# Altium integrated library Xilinx Virtex-II Pro X.IntLib: 24 symbols (part 1 of 18)
Pins are listed as number, name and electrical type; pins without a type are passive.

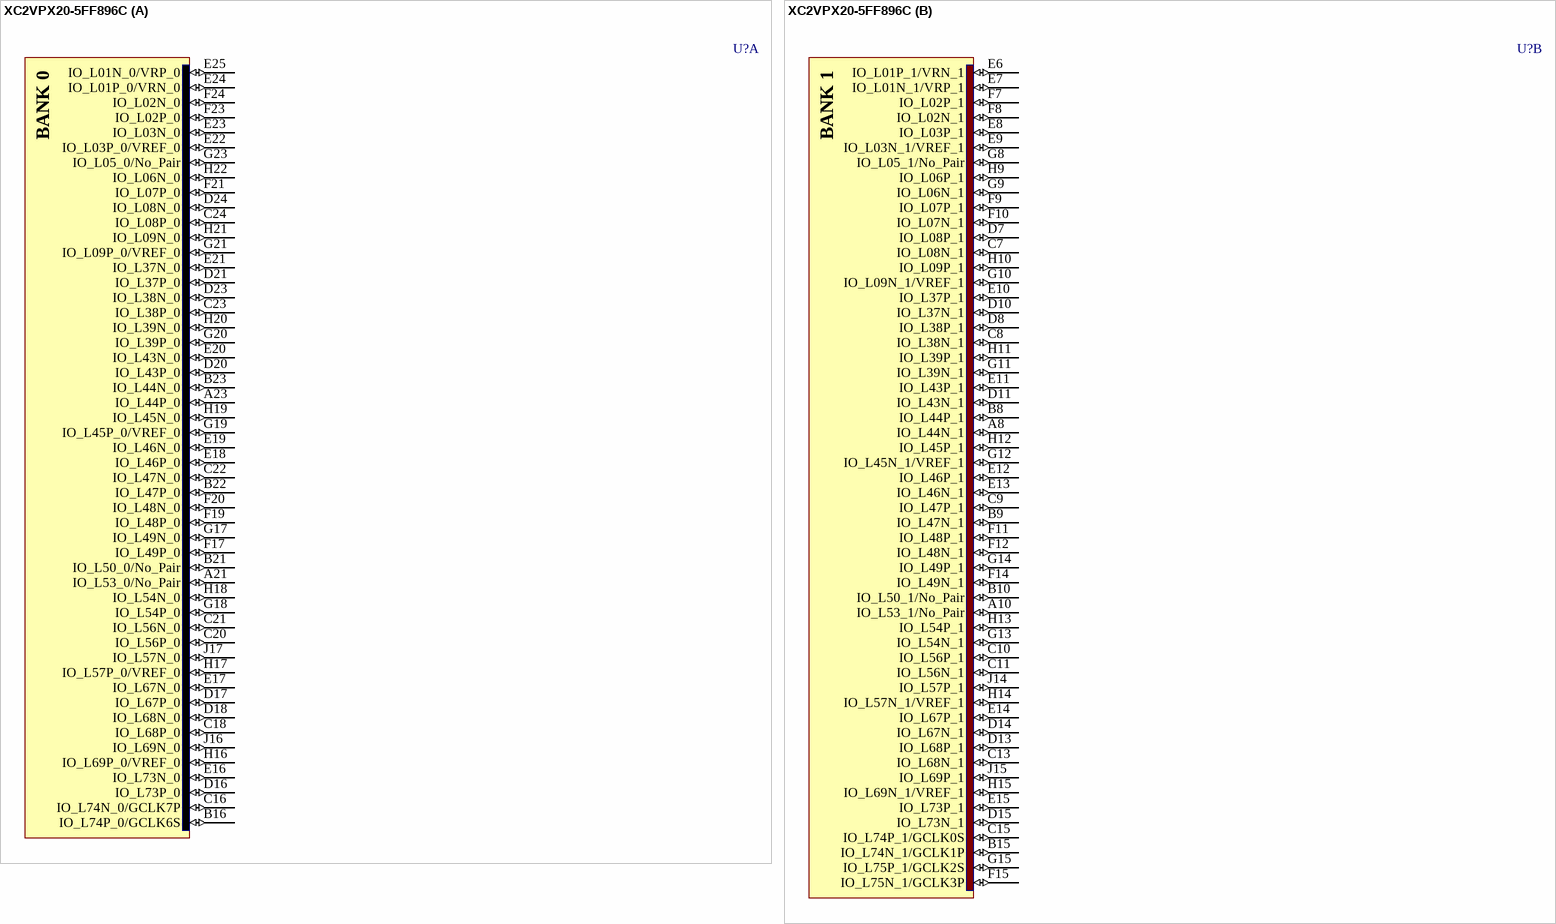
[diagram p0: symbol XC2VPX20-5FF896C]

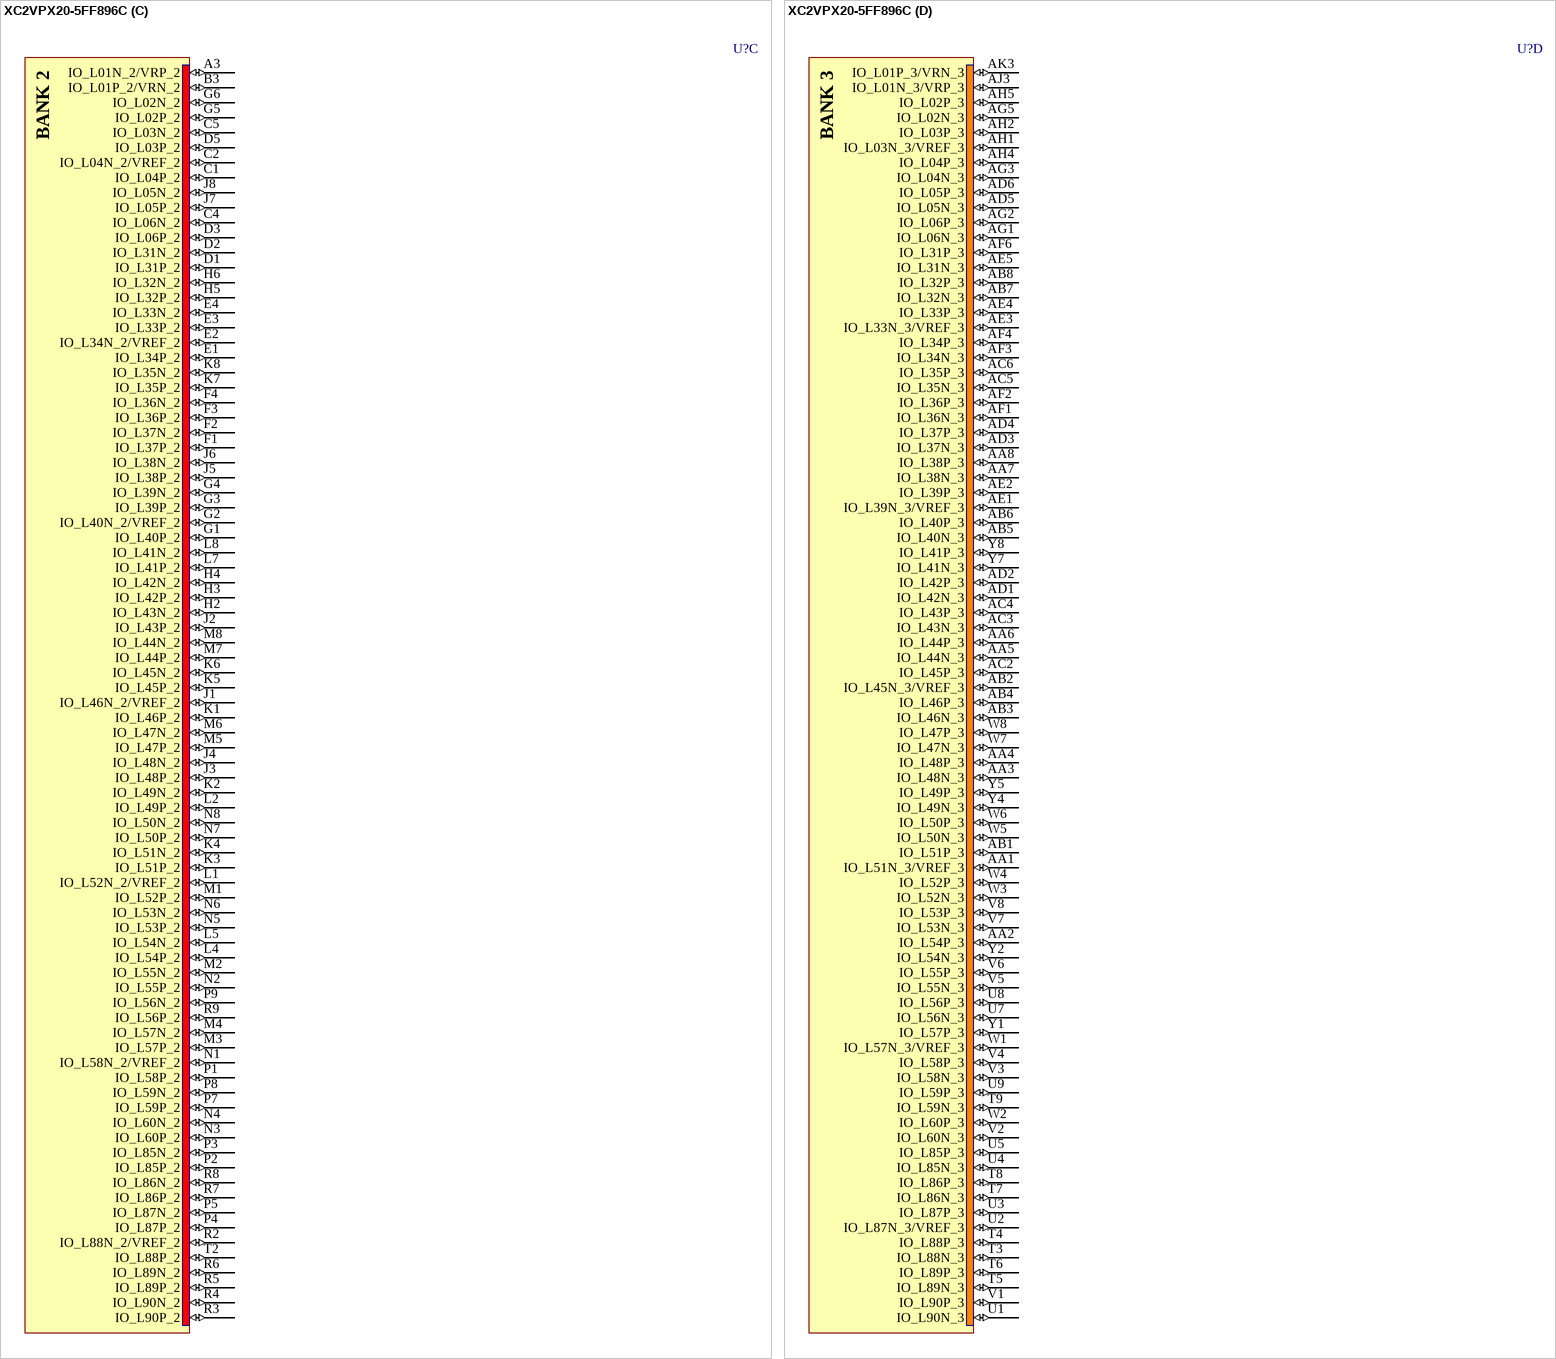
[diagram p1: symbol XC2VPX20-5FF896C]

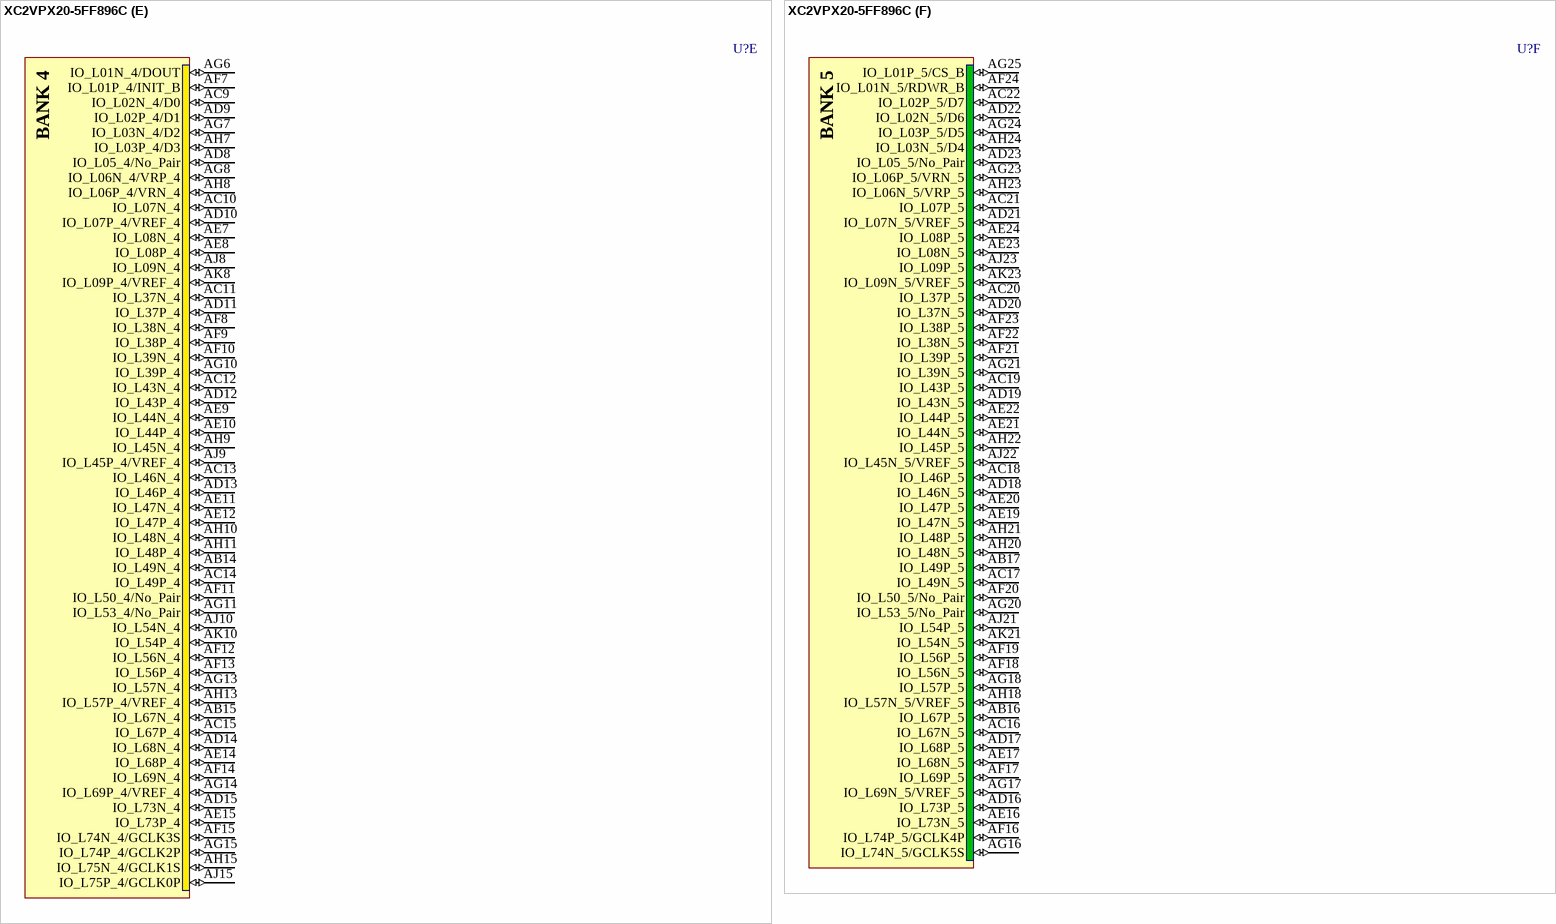
[diagram p2: symbol XC2VPX20-5FF896C]

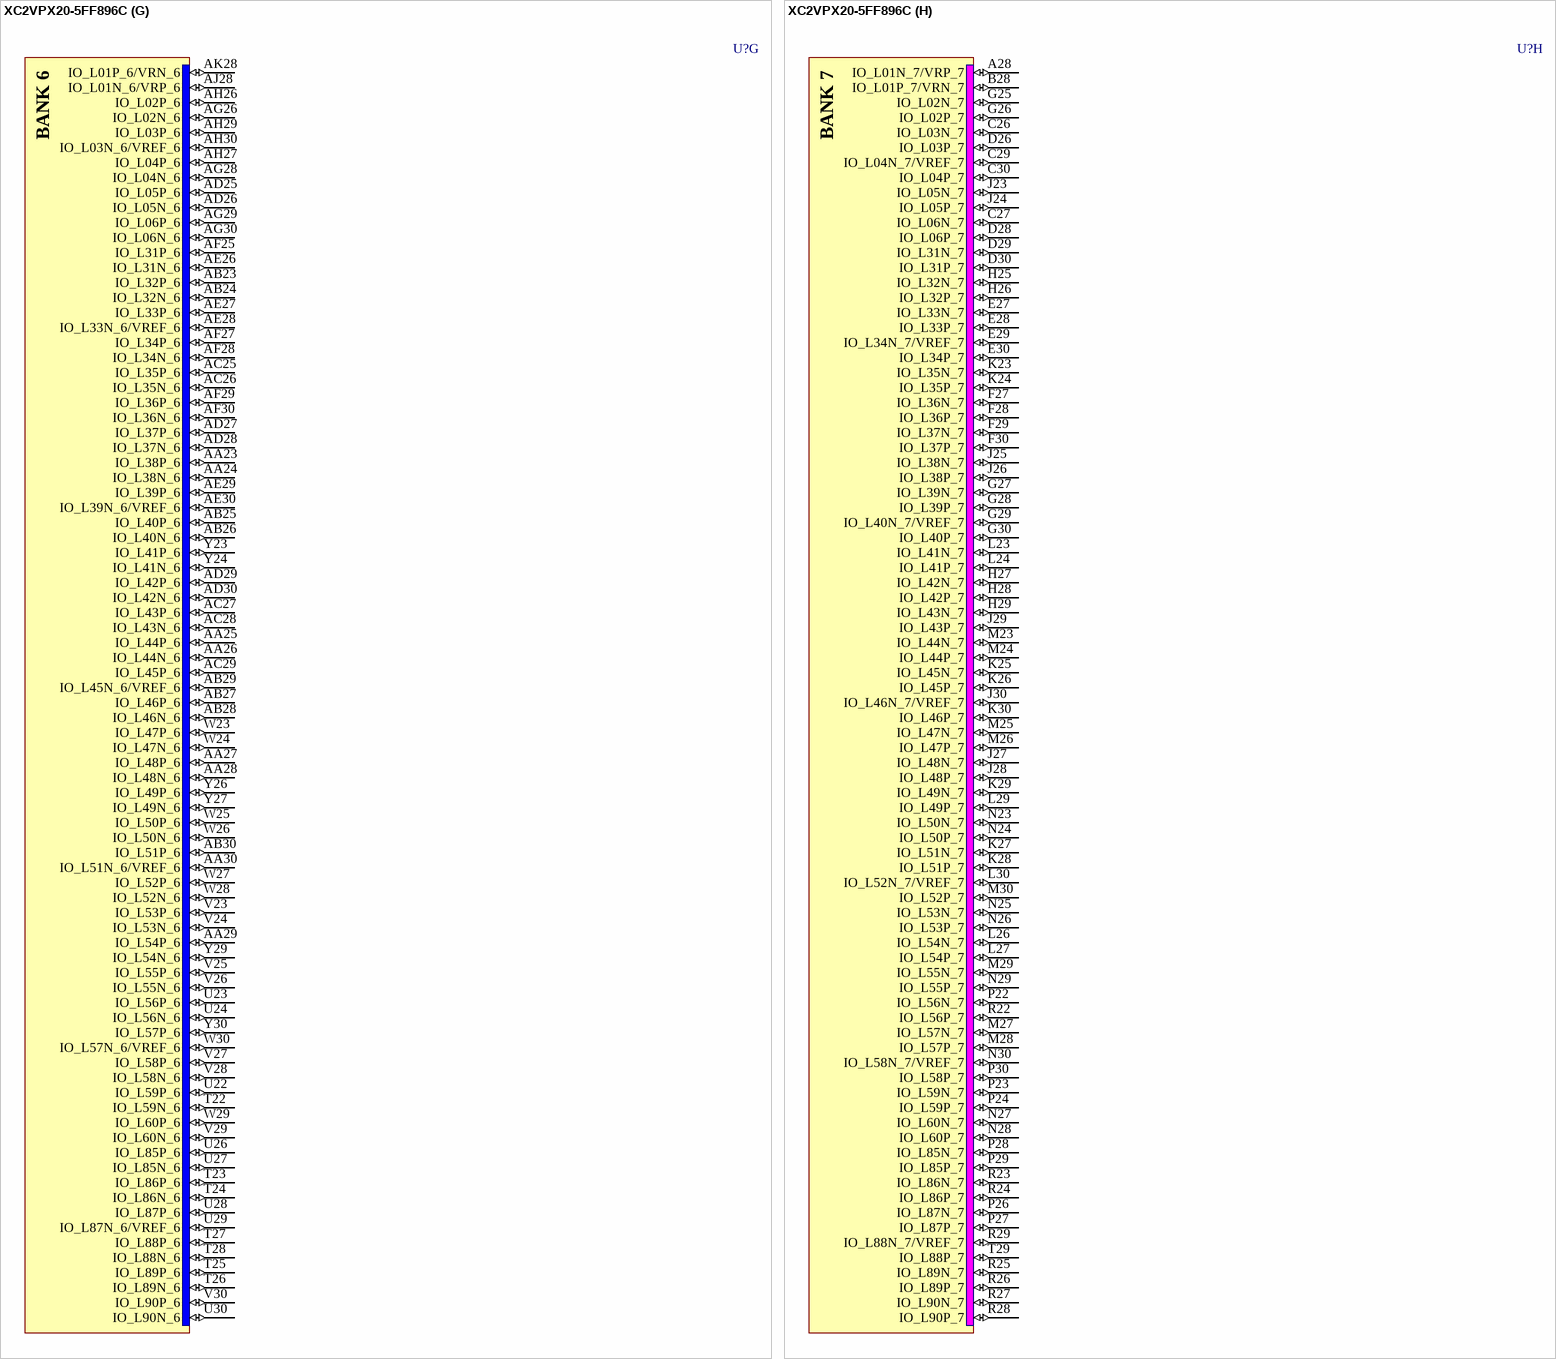
[diagram p3: symbol XC2VPX20-5FF896C]

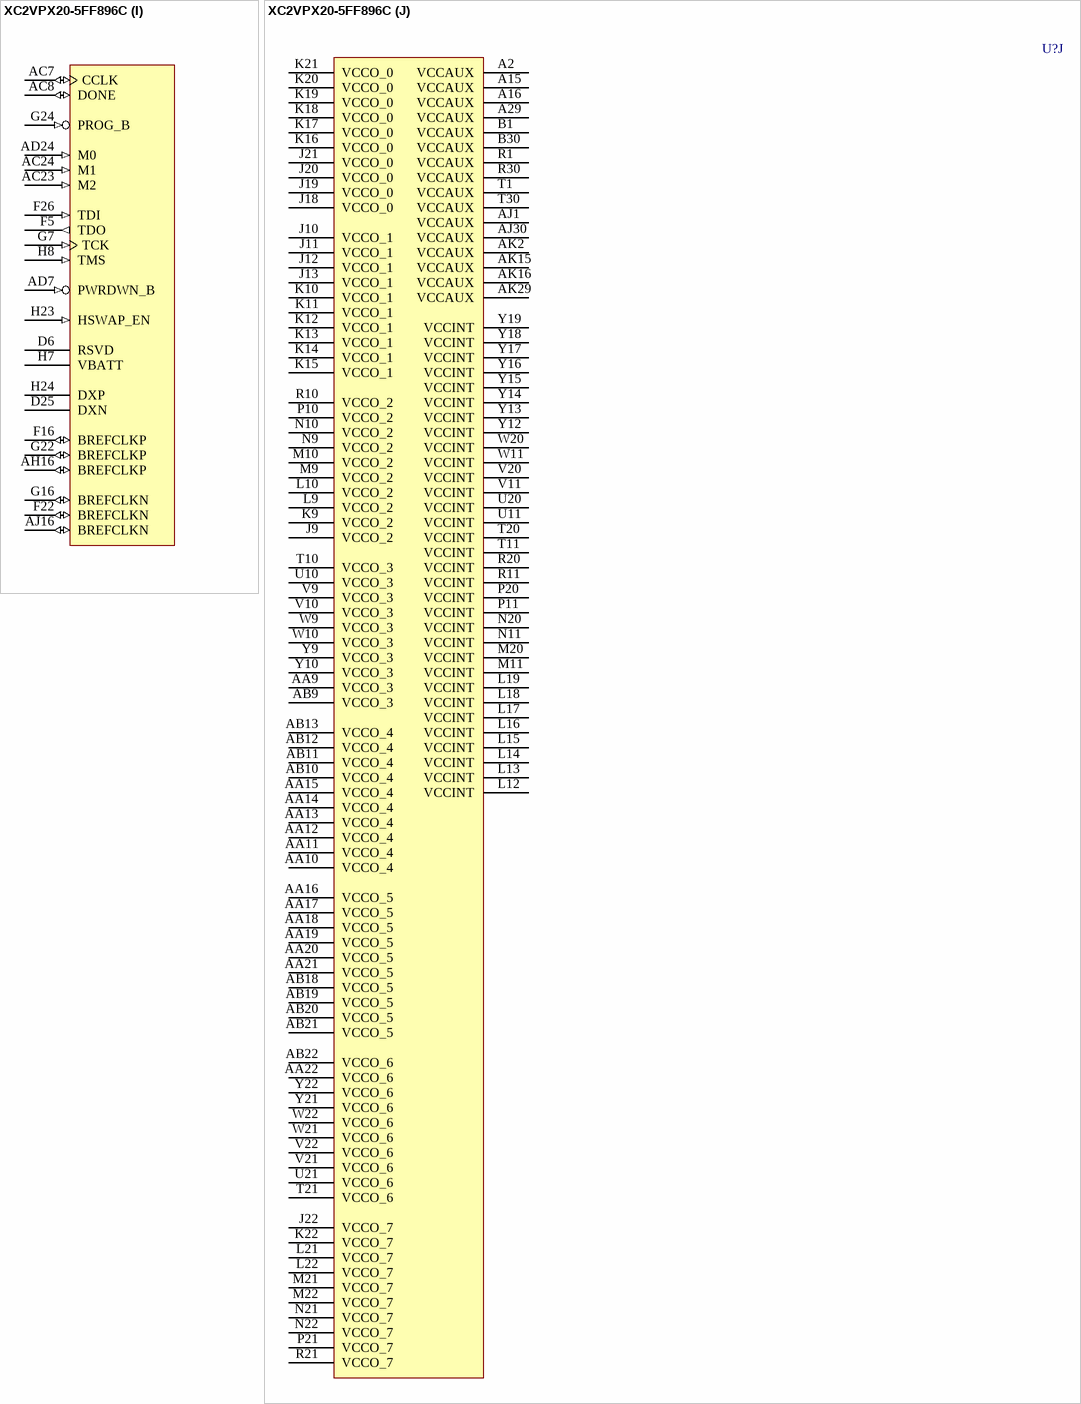
[diagram p4: symbol XC2VPX20-5FF896C]

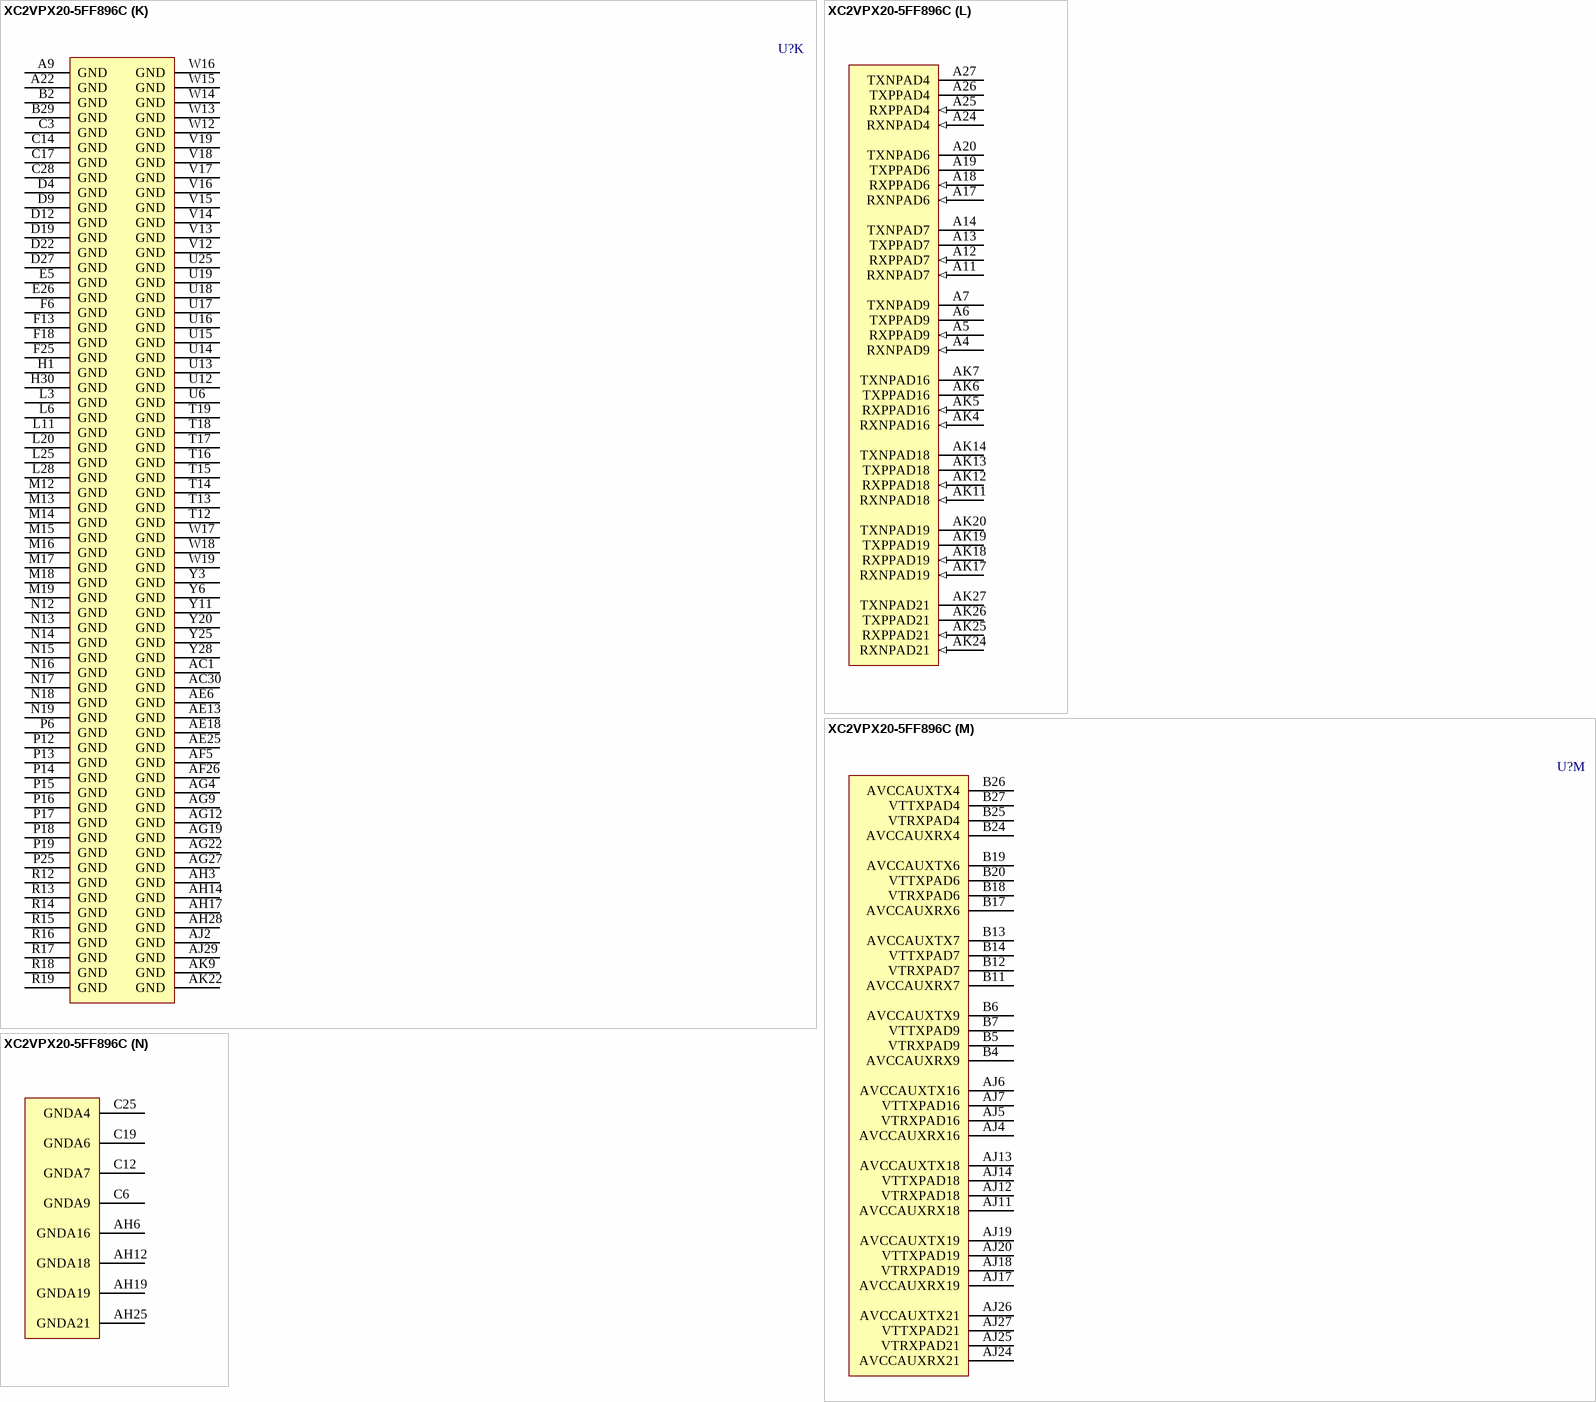
[diagram p5: symbol XC2VPX20-5FF896C]

## XC2VPX20-5FF896C
designator U?
Virtex-II Pro X Platform FPGA, 552 User I/Os, 896-Ball FFBGA, Speed Grade 5, Commercial Grade; User_I/Os: 552; DatasheetVersion: ver4.7, Nov-2007; PackageVersion: ver1.0, Apr-2001; PackageReference: FF896; PackageDescription: 896-Ball Flip Chip Fine Pitch Ball Grid Array (FF896); Code_JEDEC: MS-034-AAN-1 (Depopulated); ComponentLink1Description: Manufacturer URL; ComponentLink1URL: http://www.xilinx.com/; ComponentLink2Description: Virtex-II Pro Datasheet; ComponentLink2URL: http://www.xilinx.com/support/documentation/data_sheets/ds083.pdf; ComponentLink3Description: FF896 Package Drawing; ComponentLink3URL: http://www.xilinx.com/support/documentation/package_specs/ff896.pdf; ComponentLink4Description: Virtex-II Pro Documents; ComponentLink4URL: http://www.xilinx.com/support/documentation/virtex-ii_pro.htm
footprint FF896 (BGA, 896-Leads, Body 31x31mm, Pitch 1mm)
part A pins: A21 IO_L53_0/No_Pair (io), A23 IO_L44P_0 (io), B16 IO_L74P_0/GCLK6S (io), B21 IO_L50_0/No_Pair (io), B22 IO_L47P_0 (io), B23 IO_L44N_0 (io), C16 IO_L74N_0/GCLK7P (io), C18 IO_L68P_0 (io), C20 IO_L56P_0 (io), C21 IO_L56N_0 (io), C22 IO_L47N_0 (io), C23 IO_L38P_0 (io), C24 IO_L08P_0 (io), D16 IO_L73P_0 (io), D17 IO_L67P_0 (io), D18 IO_L68N_0 (io), D20 IO_L43P_0 (io), D21 IO_L37P_0 (io), D23 IO_L38N_0 (io), D24 IO_L08N_0 (io), E16 IO_L73N_0 (io), E17 IO_L67N_0 (io), E18 IO_L46P_0 (io), E19 IO_L46N_0 (io), E20 IO_L43N_0 (io), E21 IO_L37N_0 (io), E22 IO_L03P_0/VREF_0 (io), E23 IO_L03N_0 (io), E24 IO_L01P_0/VRN_0 (io), E25 IO_L01N_0/VRP_0 (io), F17 IO_L49P_0 (io), F19 IO_L48P_0 (io), F20 IO_L48N_0 (io), F21 IO_L07P_0 (io), F23 IO_L02P_0 (io), F24 IO_L02N_0 (io), G17 IO_L49N_0 (io), G18 IO_L54P_0 (io), G19 IO_L45P_0/VREF_0 (io), G20 IO_L39P_0 (io), G21 IO_L09P_0/VREF_0 (io), G23 IO_L05_0/No_Pair (io), H16 IO_L69P_0/VREF_0 (io), H17 IO_L57P_0/VREF_0 (io), H18 IO_L54N_0 (io), H19 IO_L45N_0 (io), H20 IO_L39N_0 (io), H21 IO_L09N_0 (io), H22 IO_L06N_0 (io), J16 IO_L69N_0 (io), J17 IO_L57N_0 (io)
part B pins: A8 IO_L44N_1 (io), A10 IO_L53_1/No_Pair (io), B8 IO_L44P_1 (io), B9 IO_L47N_1 (io), B10 IO_L50_1/No_Pair (io), B15 IO_L74N_1/GCLK1P (io), C7 IO_L08N_1 (io), C8 IO_L38N_1 (io), C9 IO_L47P_1 (io), C10 IO_L56P_1 (io), C11 IO_L56N_1 (io), C13 IO_L68N_1 (io), C15 IO_L74P_1/GCLK0S (io), D7 IO_L08P_1 (io), D8 IO_L38P_1 (io), D10 IO_L37N_1 (io), D11 IO_L43N_1 (io), D13 IO_L68P_1 (io), D14 IO_L67N_1 (io), D15 IO_L73N_1 (io), E6 IO_L01P_1/VRN_1 (io), E7 IO_L01N_1/VRP_1 (io), E8 IO_L03P_1 (io), E9 IO_L03N_1/VREF_1 (io), E10 IO_L37P_1 (io), E11 IO_L43P_1 (io), E12 IO_L46P_1 (io), E13 IO_L46N_1 (io), E14 IO_L67P_1 (io), E15 IO_L73P_1 (io), F7 IO_L02P_1 (io), F8 IO_L02N_1 (io), F9 IO_L07P_1 (io), F10 IO_L07N_1 (io), F11 IO_L48P_1 (io), F12 IO_L48N_1 (io), F14 IO_L49N_1 (io), F15 IO_L75N_1/GCLK3P (io), G8 IO_L05_1/No_Pair (io), G9 IO_L06N_1 (io), G10 IO_L09N_1/VREF_1 (io), G11 IO_L39N_1 (io), G12 IO_L45N_1/VREF_1 (io), G13 IO_L54N_1 (io), G14 IO_L49P_1 (io), G15 IO_L75P_1/GCLK2S (io), H9 IO_L06P_1 (io), H10 IO_L09P_1 (io), H11 IO_L39P_1 (io), H12 IO_L45P_1 (io), H13 IO_L54P_1 (io), H14 IO_L57N_1/VREF_1 (io), H15 IO_L69N_1/VREF_1 (io), J14 IO_L57P_1 (io), J15 IO_L69P_1 (io)
part C pins: A3 IO_L01N_2/VRP_2 (io), B3 IO_L01P_2/VRN_2 (io), C1 IO_L04P_2 (io), C2 IO_L04N_2/VREF_2 (io), C4 IO_L06N_2 (io), C5 IO_L03N_2 (io), D1 IO_L31P_2 (io), D2 IO_L31N_2 (io), D3 IO_L06P_2 (io), D5 IO_L03P_2 (io), E1 IO_L34P_2 (io), E2 IO_L34N_2/VREF_2 (io), E3 IO_L33P_2 (io), E4 IO_L33N_2 (io), F1 IO_L37P_2 (io), F2 IO_L37N_2 (io), F3 IO_L36P_2 (io), F4 IO_L36N_2 (io), G1 IO_L40P_2 (io), G2 IO_L40N_2/VREF_2 (io), G3 IO_L39P_2 (io), G4 IO_L39N_2 (io), G5 IO_L02P_2 (io), G6 IO_L02N_2 (io), H2 IO_L43N_2 (io), H3 IO_L42P_2 (io), H4 IO_L42N_2 (io), H5 IO_L32P_2 (io), H6 IO_L32N_2 (io), J1 IO_L46N_2/VREF_2 (io), J2 IO_L43P_2 (io), J3 IO_L48P_2 (io), J4 IO_L48N_2 (io), J5 IO_L38P_2 (io), J6 IO_L38N_2 (io), J7 IO_L05P_2 (io), J8 IO_L05N_2 (io), K1 IO_L46P_2 (io), K2 IO_L49N_2 (io), K3 IO_L51P_2 (io), K4 IO_L51N_2 (io), K5 IO_L45P_2 (io), K6 IO_L45N_2 (io), K7 IO_L35P_2 (io), K8 IO_L35N_2 (io), L1 IO_L52N_2/VREF_2 (io), L2 IO_L49P_2 (io), L4 IO_L54P_2 (io), L5 IO_L54N_2 (io), L7 IO_L41P_2 (io), L8 IO_L41N_2 (io), M1 IO_L52P_2 (io), M2 IO_L55N_2 (io), M3 IO_L57P_2 (io), M4 IO_L57N_2 (io), M5 IO_L47P_2 (io), M6 IO_L47N_2 (io), M7 IO_L44P_2 (io), M8 IO_L44N_2 (io), N1 IO_L58N_2/VREF_2 (io), N2 IO_L55P_2 (io), N3 IO_L60P_2 (io), N4 IO_L60N_2 (io), N5 IO_L53P_2 (io), N6 IO_L53N_2 (io), N7 IO_L50P_2 (io), N8 IO_L50N_2 (io), P1 IO_L58P_2 (io), P2 IO_L85P_2 (io), P3 IO_L85N_2 (io), P4 IO_L87P_2 (io), P5 IO_L87N_2 (io), P7 IO_L59P_2 (io), P8 IO_L59N_2 (io), P9 IO_L56N_2 (io), R2 IO_L88N_2/VREF_2 (io), R3 IO_L90P_2 (io), R4 IO_L90N_2 (io), R5 IO_L89P_2 (io), R6 IO_L89N_2 (io), R7 IO_L86P_2 (io), R8 IO_L86N_2 (io), R9 IO_L56P_2 (io), T2 IO_L88P_2 (io)
part D pins: AA1 IO_L51N_3/VREF_3 (io), AA2 IO_L54P_3 (io), AA3 IO_L48N_3 (io), AA4 IO_L48P_3 (io), AA5 IO_L44N_3 (io), AA6 IO_L44P_3 (io), AA7 IO_L38N_3 (io), AA8 IO_L38P_3 (io), AB1 IO_L51P_3 (io), AB2 IO_L45N_3/VREF_3 (io), AB3 IO_L46N_3 (io), AB4 IO_L46P_3 (io), AB5 IO_L40N_3 (io), AB6 IO_L40P_3 (io), AB7 IO_L32N_3 (io), AB8 IO_L32P_3 (io), AC2 IO_L45P_3 (io), AC3 IO_L43N_3 (io), AC4 IO_L43P_3 (io), AC5 IO_L35N_3 (io), AC6 IO_L35P_3 (io), AD1 IO_L42N_3 (io), AD2 IO_L42P_3 (io), AD3 IO_L37N_3 (io), AD4 IO_L37P_3 (io), AD5 IO_L05N_3 (io), AD6 IO_L05P_3 (io), AE1 IO_L39N_3/VREF_3 (io), AE2 IO_L39P_3 (io), AE3 IO_L33N_3/VREF_3 (io), AE4 IO_L33P_3 (io), AE5 IO_L31N_3 (io), AF1 IO_L36N_3 (io), AF2 IO_L36P_3 (io), AF3 IO_L34N_3 (io), AF4 IO_L34P_3 (io), AF6 IO_L31P_3 (io), AG1 IO_L06N_3 (io), AG2 IO_L06P_3 (io), AG3 IO_L04N_3 (io), AG5 IO_L02N_3 (io), AH1 IO_L03N_3/VREF_3 (io), AH2 IO_L03P_3 (io), AH4 IO_L04P_3 (io), AH5 IO_L02P_3 (io), AJ3 IO_L01N_3/VRP_3 (io), AK3 IO_L01P_3/VRN_3 (io), T3 IO_L88N_3 (io), T4 IO_L88P_3 (io), T5 IO_L89N_3 (io), T6 IO_L89P_3 (io), T7 IO_L86N_3 (io), T8 IO_L86P_3 (io), T9 IO_L59N_3 (io), U1 IO_L90N_3 (io), U2 IO_L87N_3/VREF_3 (io), U3 IO_L87P_3 (io), U4 IO_L85N_3 (io), U5 IO_L85P_3 (io), U7 IO_L56N_3 (io), U8 IO_L56P_3 (io), U9 IO_L59P_3 (io), V1 IO_L90P_3 (io), V2 IO_L60N_3 (io), V3 IO_L58N_3 (io), V4 IO_L58P_3 (io), V5 IO_L55N_3 (io), V6 IO_L55P_3 (io), V7 IO_L53N_3 (io), V8 IO_L53P_3 (io), W1 IO_L57N_3/VREF_3 (io), W2 IO_L60P_3 (io), W3 IO_L52N_3 (io), W4 IO_L52P_3 (io), W5 IO_L50N_3 (io), W6 IO_L50P_3 (io), W7 IO_L47N_3 (io), W8 IO_L47P_3 (io), Y1 IO_L57P_3 (io), Y2 IO_L54N_3 (io), Y4 IO_L49N_3 (io), Y5 IO_L49P_3 (io), Y7 IO_L41N_3 (io), Y8 IO_L41P_3 (io)
part E pins: AB14 IO_L49N_4 (io), AB15 IO_L67N_4 (io), AC9 IO_L02N_4/D0 (io), AC10 IO_L07N_4 (io), AC11 IO_L37N_4 (io), AC12 IO_L43N_4 (io), AC13 IO_L46N_4 (io), AC14 IO_L49P_4 (io), AC15 IO_L67P_4 (io), AD8 IO_L05_4/No_Pair (io), AD9 IO_L02P_4/D1 (io), AD10 IO_L07P_4/VREF_4 (io), AD11 IO_L37P_4 (io), AD12 IO_L43P_4 (io), AD13 IO_L46P_4 (io), AD14 IO_L68N_4 (io), AD15 IO_L73N_4 (io), AE7 IO_L08N_4 (io), AE8 IO_L08P_4 (io), AE9 IO_L44N_4 (io), AE10 IO_L44P_4 (io), AE11 IO_L47N_4 (io), AE12 IO_L47P_4 (io), AE14 IO_L68P_4 (io), AE15 IO_L73P_4 (io), AF7 IO_L01P_4/INIT_B (io), AF8 IO_L38N_4 (io), AF9 IO_L38P_4 (io), AF10 IO_L39N_4 (io), AF11 IO_L50_4/No_Pair (io), AF12 IO_L56N_4 (io), AF13 IO_L56P_4 (io), AF14 IO_L69N_4 (io), AF15 IO_L74N_4/GCLK3S (io), AG6 IO_L01N_4/DOUT (io), AG7 IO_L03N_4/D2 (io), AG8 IO_L06N_4/VRP_4 (io), AG10 IO_L39P_4 (io), AG11 IO_L53_4/No_Pair (io), AG13 IO_L57N_4 (io), AG14 IO_L69P_4/VREF_4 (io), AG15 IO_L74P_4/GCLK2P (io), AH7 IO_L03P_4/D3 (io), AH8 IO_L06P_4/VRN_4 (io), AH9 IO_L45N_4 (io), AH10 IO_L48N_4 (io), AH11 IO_L48P_4 (io), AH13 IO_L57P_4/VREF_4 (io), AH15 IO_L75N_4/GCLK1S (io), AJ8 IO_L09N_4 (io), AJ9 IO_L45P_4/VREF_4 (io), AJ10 IO_L54N_4 (io), AJ15 IO_L75P_4/GCLK0P (io), AK8 IO_L09P_4/VREF_4 (io), AK10 IO_L54P_4 (io)
part F pins: AB16 IO_L67P_5 (io), AB17 IO_L49P_5 (io), AC16 IO_L67N_5 (io), AC17 IO_L49N_5 (io), AC18 IO_L46P_5 (io), AC19 IO_L43P_5 (io), AC20 IO_L37P_5 (io), AC21 IO_L07P_5 (io), AC22 IO_L02P_5/D7 (io), AD16 IO_L73P_5 (io), AD17 IO_L68P_5 (io), AD18 IO_L46N_5 (io), AD19 IO_L43N_5 (io), AD20 IO_L37N_5 (io), AD21 IO_L07N_5/VREF_5 (io), AD22 IO_L02N_5/D6 (io), AD23 IO_L05_5/No_Pair (io), AE16 IO_L73N_5 (io), AE17 IO_L68N_5 (io), AE19 IO_L47N_5 (io), AE20 IO_L47P_5 (io), AE21 IO_L44N_5 (io), AE22 IO_L44P_5 (io), AE23 IO_L08N_5 (io), AE24 IO_L08P_5 (io), AF16 IO_L74P_5/GCLK4P (io), AF17 IO_L69P_5 (io), AF18 IO_L56N_5 (io), AF19 IO_L56P_5 (io), AF20 IO_L50_5/No_Pair (io), AF21 IO_L39P_5 (io), AF22 IO_L38N_5 (io), AF23 IO_L38P_5 (io), AF24 IO_L01N_5/RDWR_B (io), AG16 IO_L74N_5/GCLK5S (io), AG17 IO_L69N_5/VREF_5 (io), AG18 IO_L57P_5 (io), AG20 IO_L53_5/No_Pair (io), AG21 IO_L39N_5 (io), AG23 IO_L06P_5/VRN_5 (io), AG24 IO_L03P_5/D5 (io), AG25 IO_L01P_5/CS_B (io), AH18 IO_L57N_5/VREF_5 (io), AH20 IO_L48N_5 (io), AH21 IO_L48P_5 (io), AH22 IO_L45P_5 (io), AH23 IO_L06N_5/VRP_5 (io), AH24 IO_L03N_5/D4 (io), AJ21 IO_L54P_5 (io), AJ22 IO_L45N_5/VREF_5 (io), AJ23 IO_L09P_5 (io), AK21 IO_L54N_5 (io), AK23 IO_L09N_5/VREF_5 (io)
part G pins: AA23 IO_L38P_6 (io), AA24 IO_L38N_6 (io), AA25 IO_L44P_6 (io), AA26 IO_L44N_6 (io), AA27 IO_L48P_6 (io), AA28 IO_L48N_6 (io), AA29 IO_L54P_6 (io), AA30 IO_L51N_6/VREF_6 (io), AB23 IO_L32P_6 (io), AB24 IO_L32N_6 (io), AB25 IO_L40P_6 (io), AB26 IO_L40N_6 (io), AB27 IO_L46P_6 (io), AB28 IO_L46N_6 (io), AB29 IO_L45N_6/VREF_6 (io), AB30 IO_L51P_6 (io), AC25 IO_L35P_6 (io), AC26 IO_L35N_6 (io), AC27 IO_L43P_6 (io), AC28 IO_L43N_6 (io), AC29 IO_L45P_6 (io), AD25 IO_L05P_6 (io), AD26 IO_L05N_6 (io), AD27 IO_L37P_6 (io), AD28 IO_L37N_6 (io), AD29 IO_L42P_6 (io), AD30 IO_L42N_6 (io), AE26 IO_L31N_6 (io), AE27 IO_L33P_6 (io), AE28 IO_L33N_6/VREF_6 (io), AE29 IO_L39P_6 (io), AE30 IO_L39N_6/VREF_6 (io), AF25 IO_L31P_6 (io), AF27 IO_L34P_6 (io), AF28 IO_L34N_6 (io), AF29 IO_L36P_6 (io), AF30 IO_L36N_6 (io), AG26 IO_L02N_6 (io), AG28 IO_L04N_6 (io), AG29 IO_L06P_6 (io), AG30 IO_L06N_6 (io), AH26 IO_L02P_6 (io), AH27 IO_L04P_6 (io), AH29 IO_L03P_6 (io), AH30 IO_L03N_6/VREF_6 (io), AJ28 IO_L01N_6/VRP_6 (io), AK28 IO_L01P_6/VRN_6 (io), T22 IO_L59N_6 (io), T23 IO_L86P_6 (io), T24 IO_L86N_6 (io), T25 IO_L89P_6 (io), T26 IO_L89N_6 (io), T27 IO_L88P_6 (io), T28 IO_L88N_6 (io), U22 IO_L59P_6 (io), U23 IO_L56P_6 (io), U24 IO_L56N_6 (io), U26 IO_L85P_6 (io), U27 IO_L85N_6 (io), U28 IO_L87P_6 (io), U29 IO_L87N_6/VREF_6 (io), U30 IO_L90N_6 (io), V23 IO_L53P_6 (io), V24 IO_L53N_6 (io), V25 IO_L55P_6 (io), V26 IO_L55N_6 (io), V27 IO_L58P_6 (io), V28 IO_L58N_6 (io), V29 IO_L60N_6 (io), V30 IO_L90P_6 (io), W23 IO_L47P_6 (io), W24 IO_L47N_6 (io), W25 IO_L50P_6 (io), W26 IO_L50N_6 (io), W27 IO_L52P_6 (io), W28 IO_L52N_6 (io), W29 IO_L60P_6 (io), W30 IO_L57N_6/VREF_6 (io), Y23 IO_L41P_6 (io), Y24 IO_L41N_6 (io), Y26 IO_L49P_6 (io), Y27 IO_L49N_6 (io), Y29 IO_L54N_6 (io), Y30 IO_L57P_6 (io)
part H pins: A28 IO_L01N_7/VRP_7 (io), B28 IO_L01P_7/VRN_7 (io), C26 IO_L03N_7 (io), C27 IO_L06N_7 (io), C29 IO_L04N_7/VREF_7 (io), C30 IO_L04P_7 (io), D26 IO_L03P_7 (io), D28 IO_L06P_7 (io), D29 IO_L31N_7 (io), D30 IO_L31P_7 (io), E27 IO_L33N_7 (io), E28 IO_L33P_7 (io), E29 IO_L34N_7/VREF_7 (io), E30 IO_L34P_7 (io), F27 IO_L36N_7 (io), F28 IO_L36P_7 (io), F29 IO_L37N_7 (io), F30 IO_L37P_7 (io), G25 IO_L02N_7 (io), G26 IO_L02P_7 (io), G27 IO_L39N_7 (io), G28 IO_L39P_7 (io), G29 IO_L40N_7/VREF_7 (io), G30 IO_L40P_7 (io), H25 IO_L32N_7 (io), H26 IO_L32P_7 (io), H27 IO_L42N_7 (io), H28 IO_L42P_7 (io), H29 IO_L43N_7 (io), J23 IO_L05N_7 (io), J24 IO_L05P_7 (io), J25 IO_L38N_7 (io), J26 IO_L38P_7 (io), J27 IO_L48N_7 (io), J28 IO_L48P_7 (io), J29 IO_L43P_7 (io), J30 IO_L46N_7/VREF_7 (io), K23 IO_L35N_7 (io), K24 IO_L35P_7 (io), K25 IO_L45N_7 (io), K26 IO_L45P_7 (io), K27 IO_L51N_7 (io), K28 IO_L51P_7 (io), K29 IO_L49N_7 (io), K30 IO_L46P_7 (io), L23 IO_L41N_7 (io), L24 IO_L41P_7 (io), L26 IO_L54N_7 (io), L27 IO_L54P_7 (io), L29 IO_L49P_7 (io), L30 IO_L52N_7/VREF_7 (io), M23 IO_L44N_7 (io), M24 IO_L44P_7 (io), M25 IO_L47N_7 (io), M26 IO_L47P_7 (io), M27 IO_L57N_7 (io), M28 IO_L57P_7 (io), M29 IO_L55N_7 (io), M30 IO_L52P_7 (io), N23 IO_L50N_7 (io), N24 IO_L50P_7 (io), N25 IO_L53N_7 (io), N26 IO_L53P_7 (io), N27 IO_L60N_7 (io), N28 IO_L60P_7 (io), N29 IO_L55P_7 (io), N30 IO_L58N_7/VREF_7 (io), P22 IO_L56N_7 (io), P23 IO_L59N_7 (io), P24 IO_L59P_7 (io), P26 IO_L87N_7 (io), P27 IO_L87P_7 (io), P28 IO_L85N_7 (io), P29 IO_L85P_7 (io), P30 IO_L58P_7 (io), R22 IO_L56P_7 (io), R23 IO_L86N_7 (io), R24 IO_L86P_7 (io), R25 IO_L89N_7 (io), R26 IO_L89P_7 (io), R27 IO_L90N_7 (io), R28 IO_L90P_7 (io), R29 IO_L88N_7/VREF_7 (io), T29 IO_L88P_7 (io)
part I pins: AC7 CCLK (io), AC8 DONE (io), AC23 M2 (in), AC24 M1 (in), AD7 PWRDWN_B (in), AD24 M0 (in), AH16 BREFCLKP (io), AJ16 BREFCLKN (io), D6 RSVD, D25 DXN, F5 TDO (out), F16 BREFCLKP (io), F22 BREFCLKN (io), F26 TDI (in), G7 TCK (in), G16 BREFCLKN (io), G22 BREFCLKP (io), G24 PROG_B (in), H7 VBATT (power), H8 TMS (in), H23 HSWAP_EN (in), H24 DXP
part J pins: A2 VCCAUX (power), A15 VCCAUX (power), A16 VCCAUX (power), A29 VCCAUX (power), AA9 VCCO_3 (power), AA10 VCCO_4 (power), AA11 VCCO_4 (power), AA12 VCCO_4 (power), AA13 VCCO_4 (power), AA14 VCCO_4 (power), AA15 VCCO_4 (power), AA16 VCCO_5 (power), AA17 VCCO_5 (power), AA18 VCCO_5 (power), AA19 VCCO_5 (power), AA20 VCCO_5 (power), AA21 VCCO_5 (power), AA22 VCCO_6 (power), AB9 VCCO_3 (power), AB10 VCCO_4 (power), AB11 VCCO_4 (power), AB12 VCCO_4 (power), AB13 VCCO_4 (power), AB18 VCCO_5 (power), AB19 VCCO_5 (power), AB20 VCCO_5 (power), AB21 VCCO_5 (power), AB22 VCCO_6 (power), AJ1 VCCAUX (power), AJ30 VCCAUX (power), AK2 VCCAUX (power), AK15 VCCAUX (power), AK16 VCCAUX (power), AK29 VCCAUX (power), B1 VCCAUX (power), B30 VCCAUX (power), J9 VCCO_2 (power), J10 VCCO_1 (power), J11 VCCO_1 (power), J12 VCCO_1 (power), J13 VCCO_1 (power), J18 VCCO_0 (power), J19 VCCO_0 (power), J20 VCCO_0 (power), J21 VCCO_0 (power), J22 VCCO_7 (power), K9 VCCO_2 (power), K10 VCCO_1 (power), K11 VCCO_1 (power), K12 VCCO_1 (power), K13 VCCO_1 (power), K14 VCCO_1 (power), K15 VCCO_1 (power), K16 VCCO_0 (power), K17 VCCO_0 (power), K18 VCCO_0 (power), K19 VCCO_0 (power), K20 VCCO_0 (power), K21 VCCO_0 (power), K22 VCCO_7 (power), L9 VCCO_2 (power), L10 VCCO_2 (power), L12 VCCINT (power), L13 VCCINT (power), L14 VCCINT (power), L15 VCCINT (power), L16 VCCINT (power), L17 VCCINT (power), L18 VCCINT (power), L19 VCCINT (power), L21 VCCO_7 (power), L22 VCCO_7 (power), M9 VCCO_2 (power), M10 VCCO_2 (power), M11 VCCINT (power), M20 VCCINT (power), M21 VCCO_7 (power), M22 VCCO_7 (power), N9 VCCO_2 (power), N10 VCCO_2 (power), N11 VCCINT (power), N20 VCCINT (power), N21 VCCO_7 (power), N22 VCCO_7 (power), P10 VCCO_2 (power), P11 VCCINT (power), P20 VCCINT (power), P21 VCCO_7 (power), R1 VCCAUX (power), R10 VCCO_2 (power), R11 VCCINT (power), R20 VCCINT (power), R21 VCCO_7 (power), R30 VCCAUX (power), T1 VCCAUX (power), T10 VCCO_3 (power), T11 VCCINT (power), T20 VCCINT (power), T21 VCCO_6 (power), T30 VCCAUX (power), U10 VCCO_3 (power), U11 VCCINT (power), U20 VCCINT (power), U21 VCCO_6 (power), V9 VCCO_3 (power), V10 VCCO_3 (power), V11 VCCINT (power), V20 VCCINT (power), V21 VCCO_6 (power), V22 VCCO_6 (power), W9 VCCO_3 (power), W10 VCCO_3 (power), W11 VCCINT (power), W20 VCCINT (power), W21 VCCO_6 (power), W22 VCCO_6 (power), Y9 VCCO_3 (power), Y10 VCCO_3 (power), Y12 VCCINT (power), Y13 VCCINT (power), Y14 VCCINT (power), Y15 VCCINT (power), Y16 VCCINT (power), Y17 VCCINT (power), Y18 VCCINT (power), Y19 VCCINT (power), Y21 VCCO_6 (power), Y22 VCCO_6 (power)
part K pins: A9 GND (power), A22 GND (power), AC1 GND (power), AC30 GND (power), AE6 GND (power), AE13 GND (power), AE18 GND (power), AE25 GND (power), AF5 GND (power), AF26 GND (power), AG4 GND (power), AG9 GND (power), AG12 GND (power), AG19 GND (power), AG22 GND (power), AG27 GND (power), AH3 GND (power), AH14 GND (power), AH17 GND (power), AH28 GND (power), AJ2 GND (power), AJ29 GND (power), AK9 GND (power), AK22 GND (power), B2 GND (power), B29 GND (power), C3 GND (power), C14 GND (power), C17 GND (power), C28 GND (power), D4 GND (power), D9 GND (power), D12 GND (power), D19 GND (power), D22 GND (power), D27 GND (power), E5 GND (power), E26 GND (power), F6 GND (power), F13 GND (power), F18 GND (power), F25 GND (power), H1 GND (power), H30 GND (power), L3 GND (power), L6 GND (power), L11 GND (power), L20 GND (power), L25 GND (power), L28 GND (power), M12 GND (power), M13 GND (power), M14 GND (power), M15 GND (power), M16 GND (power), M17 GND (power), M18 GND (power), M19 GND (power), N12 GND (power), N13 GND (power), N14 GND (power), N15 GND (power), N16 GND (power), N17 GND (power), N18 GND (power), N19 GND (power), P6 GND (power), P12 GND (power), P13 GND (power), P14 GND (power), P15 GND (power), P16 GND (power), P17 GND (power), P18 GND (power), P19 GND (power), P25 GND (power), R12 GND (power), R13 GND (power), R14 GND (power), R15 GND (power), R16 GND (power), R17 GND (power), R18 GND (power), R19 GND (power), T12 GND (power), T13 GND (power), T14 GND (power), T15 GND (power), T16 GND (power), T17 GND (power), T18 GND (power), T19 GND (power), U6 GND (power), U12 GND (power), U13 GND (power), U14 GND (power), U15 GND (power), U16 GND (power), U17 GND (power), U18 GND (power), U19 GND (power), U25 GND (power), V12 GND (power), V13 GND (power), V14 GND (power), V15 GND (power), V16 GND (power), V17 GND (power), V18 GND (power), V19 GND (power), W12 GND (power), W13 GND (power), W14 GND (power), W15 GND (power), W16 GND (power), W17 GND (power), W18 GND (power), W19 GND (power), Y3 GND (power), Y6 GND (power), Y11 GND (power), Y20 GND (power), Y25 GND (power), Y28 GND (power)
part L pins: A4 RXNPAD9 (in), A5 RXPPAD9 (in), A6 TXPPAD9, A7 TXNPAD9, A11 RXNPAD7 (in), A12 RXPPAD7 (in), A13 TXPPAD7, A14 TXNPAD7, A17 RXNPAD6 (in), A18 RXPPAD6 (in), A19 TXPPAD6, A20 TXNPAD6, A24 RXNPAD4 (in), A25 RXPPAD4 (in), A26 TXPPAD4, A27 TXNPAD4, AK4 RXNPAD16 (in), AK5 RXPPAD16 (in), AK6 TXPPAD16, AK7 TXNPAD16, AK11 RXNPAD18 (in), AK12 RXPPAD18 (in), AK13 TXPPAD18, AK14 TXNPAD18, AK17 RXNPAD19 (in), AK18 RXPPAD19 (in), AK19 TXPPAD19, AK20 TXNPAD19, AK24 RXNPAD21 (in), AK25 RXPPAD21 (in), AK26 TXPPAD21, AK27 TXNPAD21
part M pins: AJ4 AVCCAUXRX16 (power), AJ5 VTRXPAD16 (power), AJ6 AVCCAUXTX16 (power), AJ7 VTTXPAD16 (power), AJ11 AVCCAUXRX18 (power), AJ12 VTRXPAD18 (power), AJ13 AVCCAUXTX18 (power), AJ14 VTTXPAD18 (power), AJ17 AVCCAUXRX19 (power), AJ18 VTRXPAD19 (power), AJ19 AVCCAUXTX19 (power), AJ20 VTTXPAD19 (power), AJ24 AVCCAUXRX21 (power), AJ25 VTRXPAD21 (power), AJ26 AVCCAUXTX21 (power), AJ27 VTTXPAD21 (power), B4 AVCCAUXRX9 (power), B5 VTRXPAD9 (power), B6 AVCCAUXTX9 (power), B7 VTTXPAD9 (power), B11 AVCCAUXRX7 (power), B12 VTRXPAD7 (power), B13 AVCCAUXTX7 (power), B14 VTTXPAD7 (power), B17 AVCCAUXRX6 (power), B18 VTRXPAD6 (power), B19 AVCCAUXTX6 (power), B20 VTTXPAD6 (power), B24 AVCCAUXRX4 (power), B25 VTRXPAD4 (power), B26 AVCCAUXTX4 (power), B27 VTTXPAD4 (power)
part N pins: AH6 GNDA16 (power), AH12 GNDA18 (power), AH19 GNDA19 (power), AH25 GNDA21 (power), C6 GNDA9 (power), C12 GNDA7 (power), C19 GNDA6 (power), C25 GNDA4 (power)
part A text: BANK 0
part B text: BANK 1
part C text: BANK 2
part D text: BANK 3
part E text: BANK 4
part F text: BANK 5
part G text: BANK 6
part H text: BANK 7

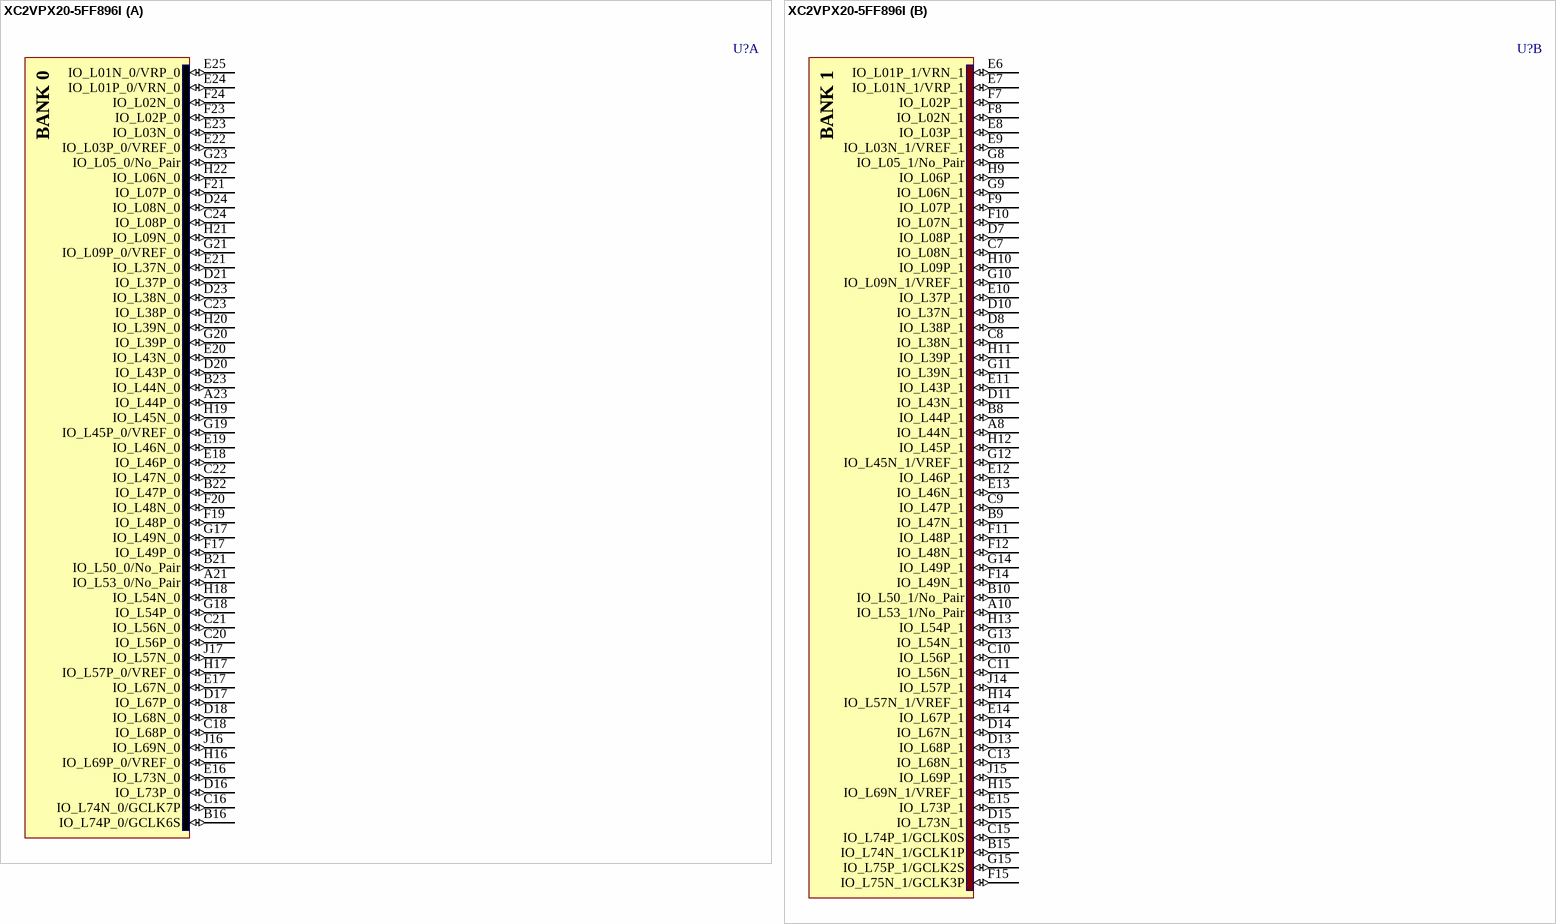
[diagram p6: symbol XC2VPX20-5FF896I]

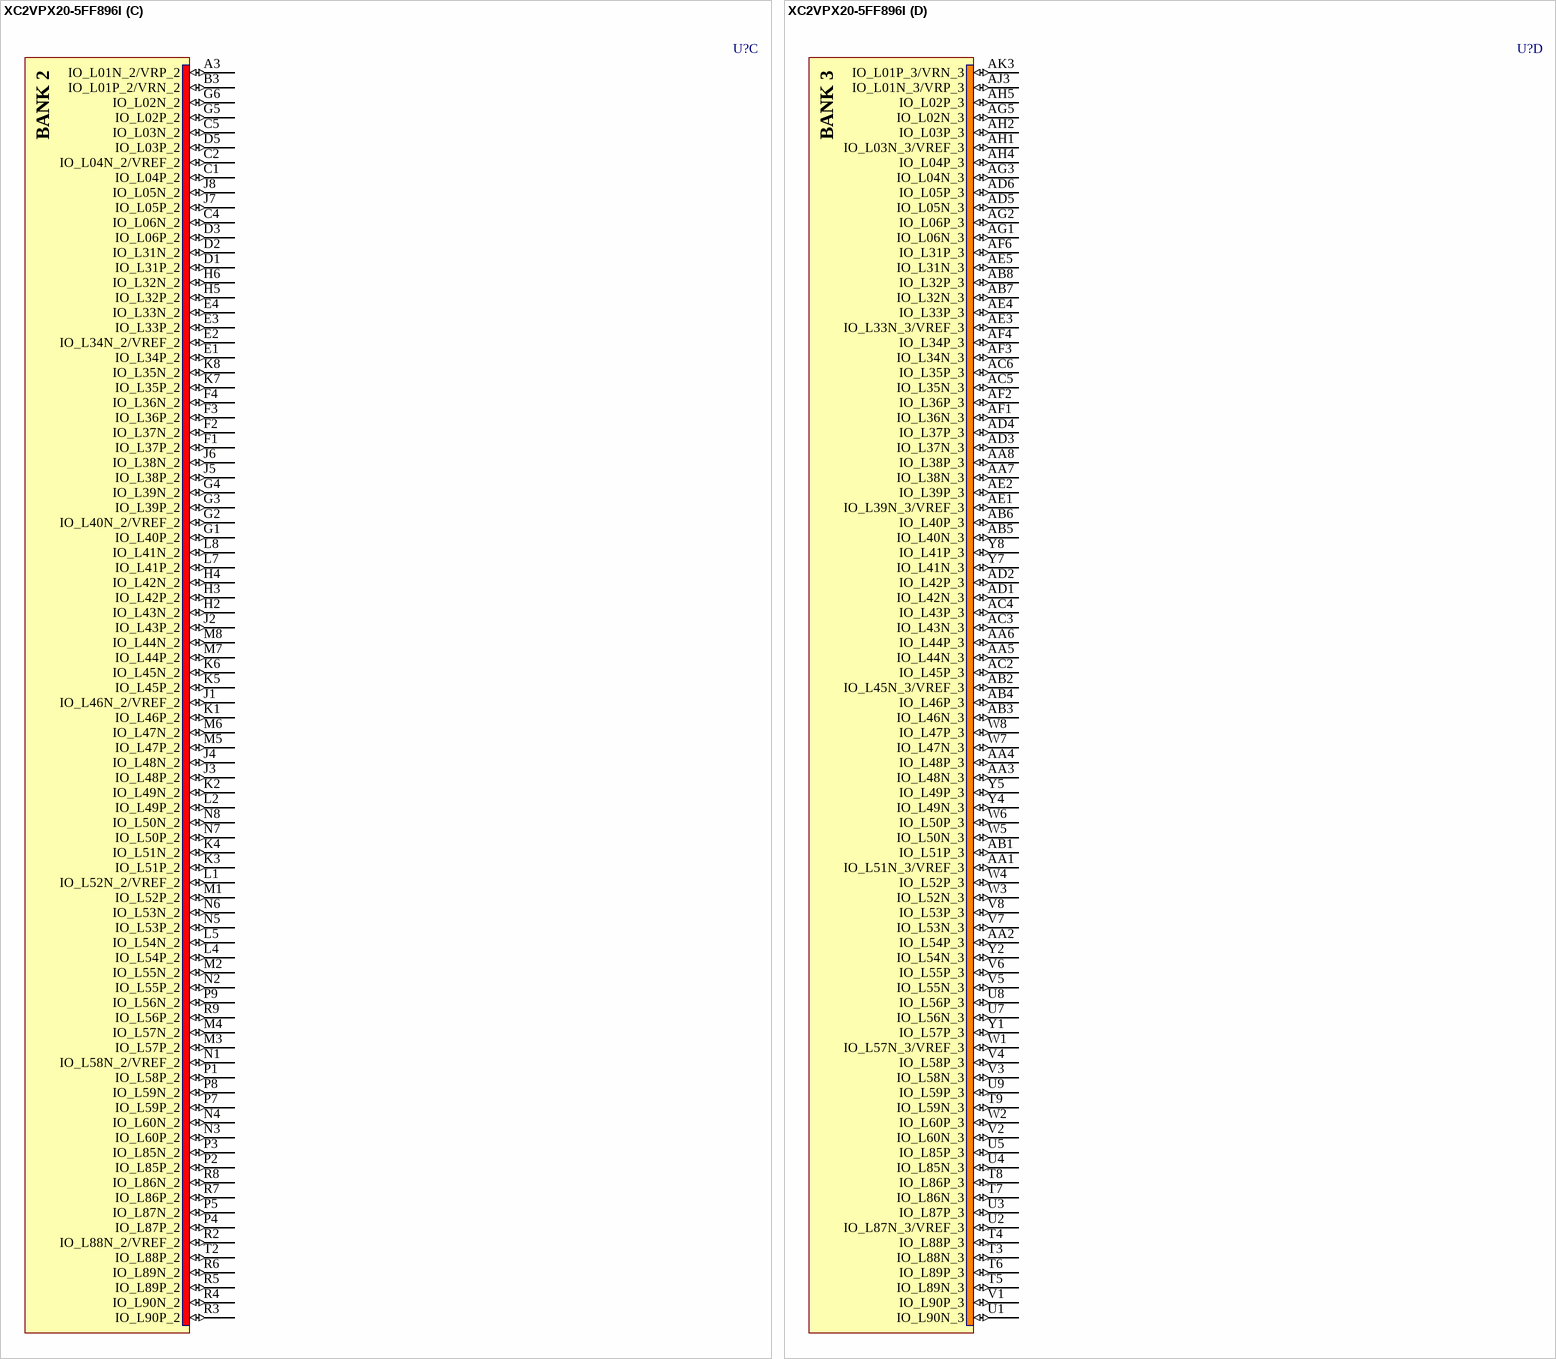
[diagram p7: symbol XC2VPX20-5FF896I]

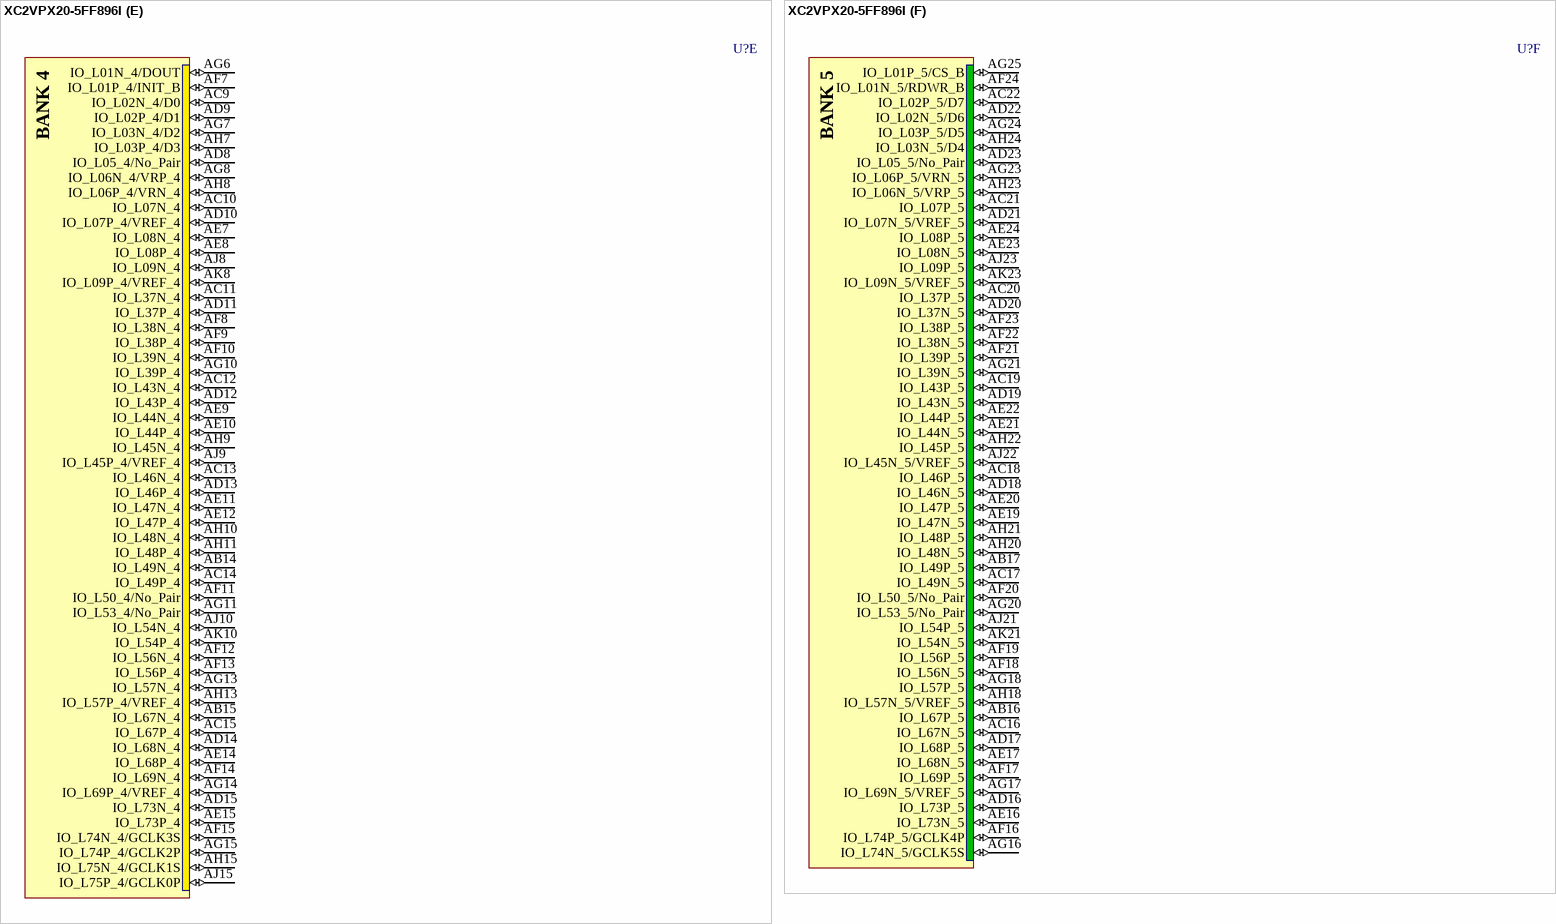
[diagram p8: symbol XC2VPX20-5FF896I]

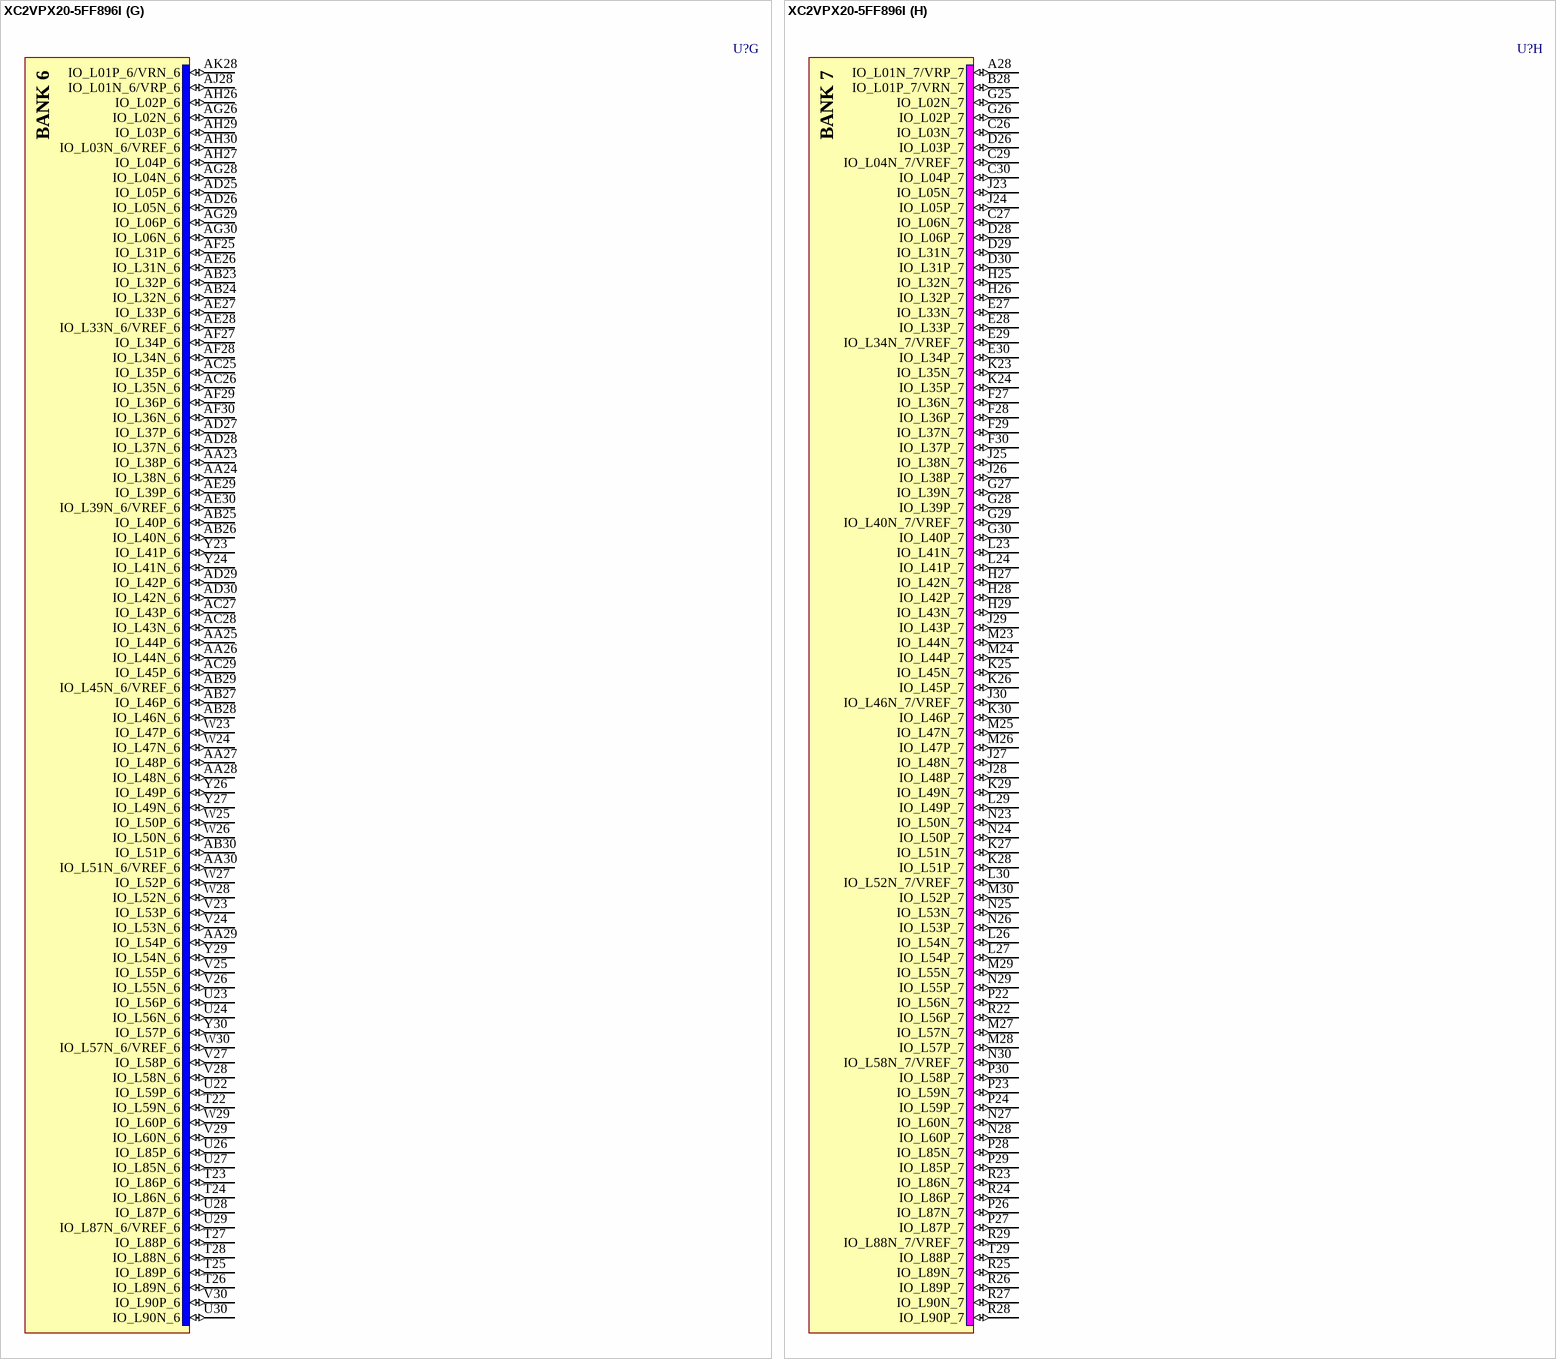
[diagram p9: symbol XC2VPX20-5FF896I]

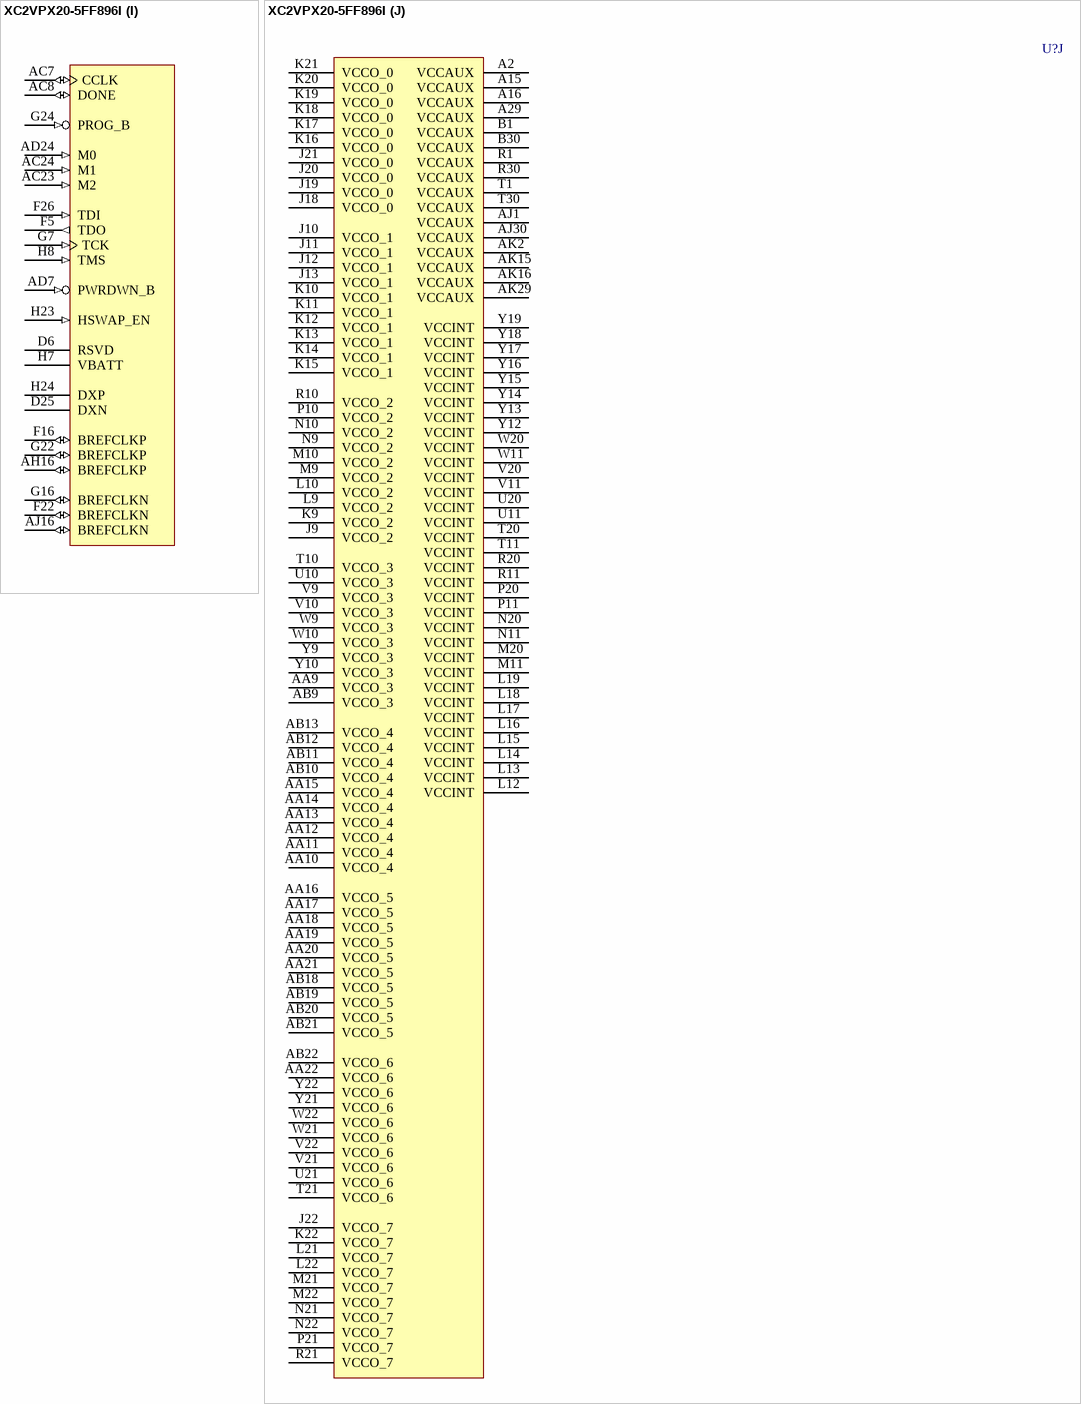
[diagram p10: symbol XC2VPX20-5FF896I]

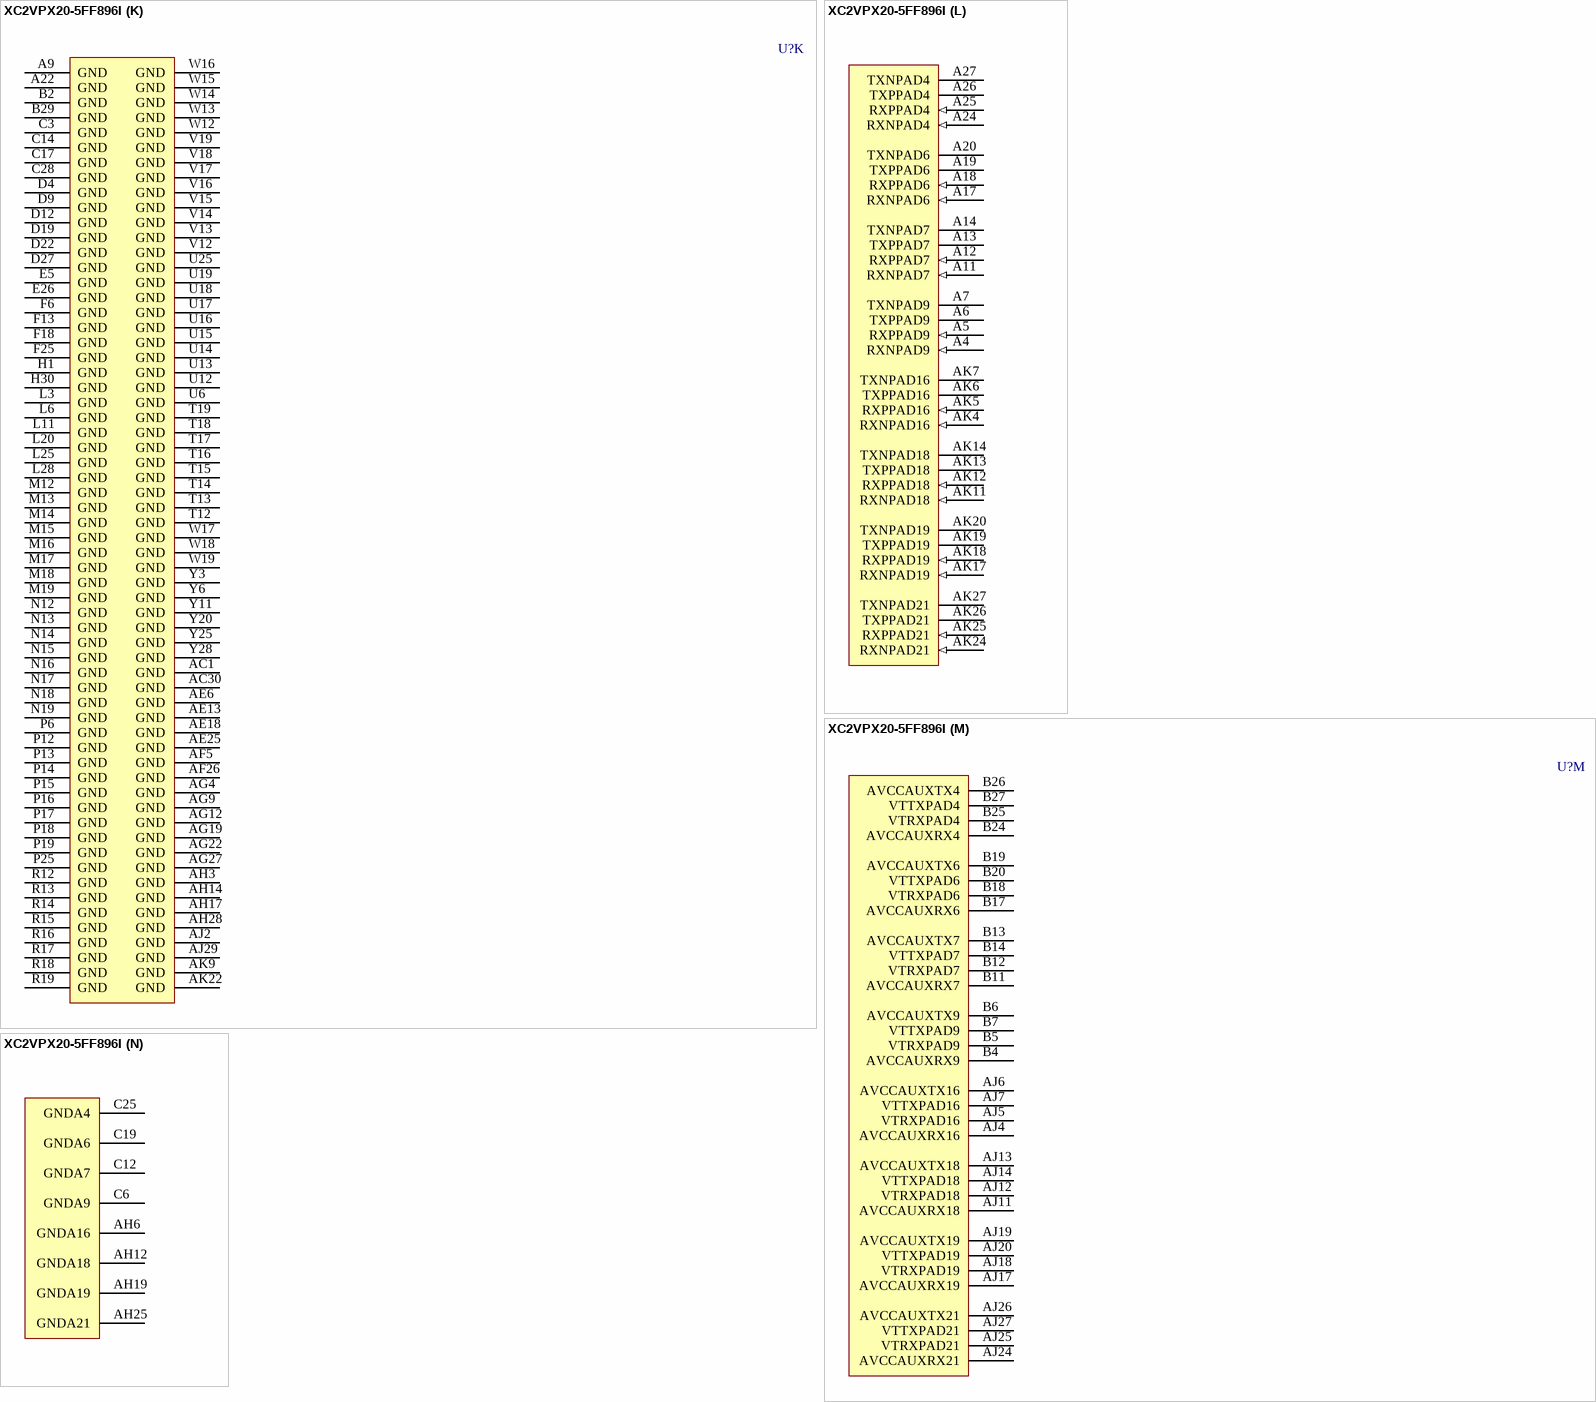
[diagram p11: symbol XC2VPX20-5FF896I]

## XC2VPX20-5FF896I
designator U?
Virtex-II Pro X Platform FPGA, 552 User I/Os, 896-Ball FFBGA, Speed Grade 5, Industrial Grade; User_I/Os: 552; DatasheetVersion: ver4.7, Nov-2007; PackageVersion: ver1.0, Apr-2001; PackageReference: FF896; PackageDescription: 896-Ball Flip Chip Fine Pitch Ball Grid Array (FF896); Code_JEDEC: MS-034-AAN-1 (Depopulated); ComponentLink1Description: Manufacturer URL; ComponentLink1URL: http://www.xilinx.com/; ComponentLink2Description: Virtex-II Pro Datasheet; ComponentLink2URL: http://www.xilinx.com/support/documentation/data_sheets/ds083.pdf; ComponentLink3Description: FF896 Package Drawing; ComponentLink3URL: http://www.xilinx.com/support/documentation/package_specs/ff896.pdf; ComponentLink4Description: Virtex-II Pro Documents; ComponentLink4URL: http://www.xilinx.com/support/documentation/virtex-ii_pro.htm
footprint FF896 (BGA, 896-Leads, Body 31x31mm, Pitch 1mm)
part A pins: A21 IO_L53_0/No_Pair (io), A23 IO_L44P_0 (io), B16 IO_L74P_0/GCLK6S (io), B21 IO_L50_0/No_Pair (io), B22 IO_L47P_0 (io), B23 IO_L44N_0 (io), C16 IO_L74N_0/GCLK7P (io), C18 IO_L68P_0 (io), C20 IO_L56P_0 (io), C21 IO_L56N_0 (io), C22 IO_L47N_0 (io), C23 IO_L38P_0 (io), C24 IO_L08P_0 (io), D16 IO_L73P_0 (io), D17 IO_L67P_0 (io), D18 IO_L68N_0 (io), D20 IO_L43P_0 (io), D21 IO_L37P_0 (io), D23 IO_L38N_0 (io), D24 IO_L08N_0 (io), E16 IO_L73N_0 (io), E17 IO_L67N_0 (io), E18 IO_L46P_0 (io), E19 IO_L46N_0 (io), E20 IO_L43N_0 (io), E21 IO_L37N_0 (io), E22 IO_L03P_0/VREF_0 (io), E23 IO_L03N_0 (io), E24 IO_L01P_0/VRN_0 (io), E25 IO_L01N_0/VRP_0 (io), F17 IO_L49P_0 (io), F19 IO_L48P_0 (io), F20 IO_L48N_0 (io), F21 IO_L07P_0 (io), F23 IO_L02P_0 (io), F24 IO_L02N_0 (io), G17 IO_L49N_0 (io), G18 IO_L54P_0 (io), G19 IO_L45P_0/VREF_0 (io), G20 IO_L39P_0 (io), G21 IO_L09P_0/VREF_0 (io), G23 IO_L05_0/No_Pair (io), H16 IO_L69P_0/VREF_0 (io), H17 IO_L57P_0/VREF_0 (io), H18 IO_L54N_0 (io), H19 IO_L45N_0 (io), H20 IO_L39N_0 (io), H21 IO_L09N_0 (io), H22 IO_L06N_0 (io), J16 IO_L69N_0 (io), J17 IO_L57N_0 (io)
part B pins: A8 IO_L44N_1 (io), A10 IO_L53_1/No_Pair (io), B8 IO_L44P_1 (io), B9 IO_L47N_1 (io), B10 IO_L50_1/No_Pair (io), B15 IO_L74N_1/GCLK1P (io), C7 IO_L08N_1 (io), C8 IO_L38N_1 (io), C9 IO_L47P_1 (io), C10 IO_L56P_1 (io), C11 IO_L56N_1 (io), C13 IO_L68N_1 (io), C15 IO_L74P_1/GCLK0S (io), D7 IO_L08P_1 (io), D8 IO_L38P_1 (io), D10 IO_L37N_1 (io), D11 IO_L43N_1 (io), D13 IO_L68P_1 (io), D14 IO_L67N_1 (io), D15 IO_L73N_1 (io), E6 IO_L01P_1/VRN_1 (io), E7 IO_L01N_1/VRP_1 (io), E8 IO_L03P_1 (io), E9 IO_L03N_1/VREF_1 (io), E10 IO_L37P_1 (io), E11 IO_L43P_1 (io), E12 IO_L46P_1 (io), E13 IO_L46N_1 (io), E14 IO_L67P_1 (io), E15 IO_L73P_1 (io), F7 IO_L02P_1 (io), F8 IO_L02N_1 (io), F9 IO_L07P_1 (io), F10 IO_L07N_1 (io), F11 IO_L48P_1 (io), F12 IO_L48N_1 (io), F14 IO_L49N_1 (io), F15 IO_L75N_1/GCLK3P (io), G8 IO_L05_1/No_Pair (io), G9 IO_L06N_1 (io), G10 IO_L09N_1/VREF_1 (io), G11 IO_L39N_1 (io), G12 IO_L45N_1/VREF_1 (io), G13 IO_L54N_1 (io), G14 IO_L49P_1 (io), G15 IO_L75P_1/GCLK2S (io), H9 IO_L06P_1 (io), H10 IO_L09P_1 (io), H11 IO_L39P_1 (io), H12 IO_L45P_1 (io), H13 IO_L54P_1 (io), H14 IO_L57N_1/VREF_1 (io), H15 IO_L69N_1/VREF_1 (io), J14 IO_L57P_1 (io), J15 IO_L69P_1 (io)
part C pins: A3 IO_L01N_2/VRP_2 (io), B3 IO_L01P_2/VRN_2 (io), C1 IO_L04P_2 (io), C2 IO_L04N_2/VREF_2 (io), C4 IO_L06N_2 (io), C5 IO_L03N_2 (io), D1 IO_L31P_2 (io), D2 IO_L31N_2 (io), D3 IO_L06P_2 (io), D5 IO_L03P_2 (io), E1 IO_L34P_2 (io), E2 IO_L34N_2/VREF_2 (io), E3 IO_L33P_2 (io), E4 IO_L33N_2 (io), F1 IO_L37P_2 (io), F2 IO_L37N_2 (io), F3 IO_L36P_2 (io), F4 IO_L36N_2 (io), G1 IO_L40P_2 (io), G2 IO_L40N_2/VREF_2 (io), G3 IO_L39P_2 (io), G4 IO_L39N_2 (io), G5 IO_L02P_2 (io), G6 IO_L02N_2 (io), H2 IO_L43N_2 (io), H3 IO_L42P_2 (io), H4 IO_L42N_2 (io), H5 IO_L32P_2 (io), H6 IO_L32N_2 (io), J1 IO_L46N_2/VREF_2 (io), J2 IO_L43P_2 (io), J3 IO_L48P_2 (io), J4 IO_L48N_2 (io), J5 IO_L38P_2 (io), J6 IO_L38N_2 (io), J7 IO_L05P_2 (io), J8 IO_L05N_2 (io), K1 IO_L46P_2 (io), K2 IO_L49N_2 (io), K3 IO_L51P_2 (io), K4 IO_L51N_2 (io), K5 IO_L45P_2 (io), K6 IO_L45N_2 (io), K7 IO_L35P_2 (io), K8 IO_L35N_2 (io), L1 IO_L52N_2/VREF_2 (io), L2 IO_L49P_2 (io), L4 IO_L54P_2 (io), L5 IO_L54N_2 (io), L7 IO_L41P_2 (io), L8 IO_L41N_2 (io), M1 IO_L52P_2 (io), M2 IO_L55N_2 (io), M3 IO_L57P_2 (io), M4 IO_L57N_2 (io), M5 IO_L47P_2 (io), M6 IO_L47N_2 (io), M7 IO_L44P_2 (io), M8 IO_L44N_2 (io), N1 IO_L58N_2/VREF_2 (io), N2 IO_L55P_2 (io), N3 IO_L60P_2 (io), N4 IO_L60N_2 (io), N5 IO_L53P_2 (io), N6 IO_L53N_2 (io), N7 IO_L50P_2 (io), N8 IO_L50N_2 (io), P1 IO_L58P_2 (io), P2 IO_L85P_2 (io), P3 IO_L85N_2 (io), P4 IO_L87P_2 (io), P5 IO_L87N_2 (io), P7 IO_L59P_2 (io), P8 IO_L59N_2 (io), P9 IO_L56N_2 (io), R2 IO_L88N_2/VREF_2 (io), R3 IO_L90P_2 (io), R4 IO_L90N_2 (io), R5 IO_L89P_2 (io), R6 IO_L89N_2 (io), R7 IO_L86P_2 (io), R8 IO_L86N_2 (io), R9 IO_L56P_2 (io), T2 IO_L88P_2 (io)
part D pins: AA1 IO_L51N_3/VREF_3 (io), AA2 IO_L54P_3 (io), AA3 IO_L48N_3 (io), AA4 IO_L48P_3 (io), AA5 IO_L44N_3 (io), AA6 IO_L44P_3 (io), AA7 IO_L38N_3 (io), AA8 IO_L38P_3 (io), AB1 IO_L51P_3 (io), AB2 IO_L45N_3/VREF_3 (io), AB3 IO_L46N_3 (io), AB4 IO_L46P_3 (io), AB5 IO_L40N_3 (io), AB6 IO_L40P_3 (io), AB7 IO_L32N_3 (io), AB8 IO_L32P_3 (io), AC2 IO_L45P_3 (io), AC3 IO_L43N_3 (io), AC4 IO_L43P_3 (io), AC5 IO_L35N_3 (io), AC6 IO_L35P_3 (io), AD1 IO_L42N_3 (io), AD2 IO_L42P_3 (io), AD3 IO_L37N_3 (io), AD4 IO_L37P_3 (io), AD5 IO_L05N_3 (io), AD6 IO_L05P_3 (io), AE1 IO_L39N_3/VREF_3 (io), AE2 IO_L39P_3 (io), AE3 IO_L33N_3/VREF_3 (io), AE4 IO_L33P_3 (io), AE5 IO_L31N_3 (io), AF1 IO_L36N_3 (io), AF2 IO_L36P_3 (io), AF3 IO_L34N_3 (io), AF4 IO_L34P_3 (io), AF6 IO_L31P_3 (io), AG1 IO_L06N_3 (io), AG2 IO_L06P_3 (io), AG3 IO_L04N_3 (io), AG5 IO_L02N_3 (io), AH1 IO_L03N_3/VREF_3 (io), AH2 IO_L03P_3 (io), AH4 IO_L04P_3 (io), AH5 IO_L02P_3 (io), AJ3 IO_L01N_3/VRP_3 (io), AK3 IO_L01P_3/VRN_3 (io), T3 IO_L88N_3 (io), T4 IO_L88P_3 (io), T5 IO_L89N_3 (io), T6 IO_L89P_3 (io), T7 IO_L86N_3 (io), T8 IO_L86P_3 (io), T9 IO_L59N_3 (io), U1 IO_L90N_3 (io), U2 IO_L87N_3/VREF_3 (io), U3 IO_L87P_3 (io), U4 IO_L85N_3 (io), U5 IO_L85P_3 (io), U7 IO_L56N_3 (io), U8 IO_L56P_3 (io), U9 IO_L59P_3 (io), V1 IO_L90P_3 (io), V2 IO_L60N_3 (io), V3 IO_L58N_3 (io), V4 IO_L58P_3 (io), V5 IO_L55N_3 (io), V6 IO_L55P_3 (io), V7 IO_L53N_3 (io), V8 IO_L53P_3 (io), W1 IO_L57N_3/VREF_3 (io), W2 IO_L60P_3 (io), W3 IO_L52N_3 (io), W4 IO_L52P_3 (io), W5 IO_L50N_3 (io), W6 IO_L50P_3 (io), W7 IO_L47N_3 (io), W8 IO_L47P_3 (io), Y1 IO_L57P_3 (io), Y2 IO_L54N_3 (io), Y4 IO_L49N_3 (io), Y5 IO_L49P_3 (io), Y7 IO_L41N_3 (io), Y8 IO_L41P_3 (io)
part E pins: AB14 IO_L49N_4 (io), AB15 IO_L67N_4 (io), AC9 IO_L02N_4/D0 (io), AC10 IO_L07N_4 (io), AC11 IO_L37N_4 (io), AC12 IO_L43N_4 (io), AC13 IO_L46N_4 (io), AC14 IO_L49P_4 (io), AC15 IO_L67P_4 (io), AD8 IO_L05_4/No_Pair (io), AD9 IO_L02P_4/D1 (io), AD10 IO_L07P_4/VREF_4 (io), AD11 IO_L37P_4 (io), AD12 IO_L43P_4 (io), AD13 IO_L46P_4 (io), AD14 IO_L68N_4 (io), AD15 IO_L73N_4 (io), AE7 IO_L08N_4 (io), AE8 IO_L08P_4 (io), AE9 IO_L44N_4 (io), AE10 IO_L44P_4 (io), AE11 IO_L47N_4 (io), AE12 IO_L47P_4 (io), AE14 IO_L68P_4 (io), AE15 IO_L73P_4 (io), AF7 IO_L01P_4/INIT_B (io), AF8 IO_L38N_4 (io), AF9 IO_L38P_4 (io), AF10 IO_L39N_4 (io), AF11 IO_L50_4/No_Pair (io), AF12 IO_L56N_4 (io), AF13 IO_L56P_4 (io), AF14 IO_L69N_4 (io), AF15 IO_L74N_4/GCLK3S (io), AG6 IO_L01N_4/DOUT (io), AG7 IO_L03N_4/D2 (io), AG8 IO_L06N_4/VRP_4 (io), AG10 IO_L39P_4 (io), AG11 IO_L53_4/No_Pair (io), AG13 IO_L57N_4 (io), AG14 IO_L69P_4/VREF_4 (io), AG15 IO_L74P_4/GCLK2P (io), AH7 IO_L03P_4/D3 (io), AH8 IO_L06P_4/VRN_4 (io), AH9 IO_L45N_4 (io), AH10 IO_L48N_4 (io), AH11 IO_L48P_4 (io), AH13 IO_L57P_4/VREF_4 (io), AH15 IO_L75N_4/GCLK1S (io), AJ8 IO_L09N_4 (io), AJ9 IO_L45P_4/VREF_4 (io), AJ10 IO_L54N_4 (io), AJ15 IO_L75P_4/GCLK0P (io), AK8 IO_L09P_4/VREF_4 (io), AK10 IO_L54P_4 (io)
part F pins: AB16 IO_L67P_5 (io), AB17 IO_L49P_5 (io), AC16 IO_L67N_5 (io), AC17 IO_L49N_5 (io), AC18 IO_L46P_5 (io), AC19 IO_L43P_5 (io), AC20 IO_L37P_5 (io), AC21 IO_L07P_5 (io), AC22 IO_L02P_5/D7 (io), AD16 IO_L73P_5 (io), AD17 IO_L68P_5 (io), AD18 IO_L46N_5 (io), AD19 IO_L43N_5 (io), AD20 IO_L37N_5 (io), AD21 IO_L07N_5/VREF_5 (io), AD22 IO_L02N_5/D6 (io), AD23 IO_L05_5/No_Pair (io), AE16 IO_L73N_5 (io), AE17 IO_L68N_5 (io), AE19 IO_L47N_5 (io), AE20 IO_L47P_5 (io), AE21 IO_L44N_5 (io), AE22 IO_L44P_5 (io), AE23 IO_L08N_5 (io), AE24 IO_L08P_5 (io), AF16 IO_L74P_5/GCLK4P (io), AF17 IO_L69P_5 (io), AF18 IO_L56N_5 (io), AF19 IO_L56P_5 (io), AF20 IO_L50_5/No_Pair (io), AF21 IO_L39P_5 (io), AF22 IO_L38N_5 (io), AF23 IO_L38P_5 (io), AF24 IO_L01N_5/RDWR_B (io), AG16 IO_L74N_5/GCLK5S (io), AG17 IO_L69N_5/VREF_5 (io), AG18 IO_L57P_5 (io), AG20 IO_L53_5/No_Pair (io), AG21 IO_L39N_5 (io), AG23 IO_L06P_5/VRN_5 (io), AG24 IO_L03P_5/D5 (io), AG25 IO_L01P_5/CS_B (io), AH18 IO_L57N_5/VREF_5 (io), AH20 IO_L48N_5 (io), AH21 IO_L48P_5 (io), AH22 IO_L45P_5 (io), AH23 IO_L06N_5/VRP_5 (io), AH24 IO_L03N_5/D4 (io), AJ21 IO_L54P_5 (io), AJ22 IO_L45N_5/VREF_5 (io), AJ23 IO_L09P_5 (io), AK21 IO_L54N_5 (io), AK23 IO_L09N_5/VREF_5 (io)
part G pins: AA23 IO_L38P_6 (io), AA24 IO_L38N_6 (io), AA25 IO_L44P_6 (io), AA26 IO_L44N_6 (io), AA27 IO_L48P_6 (io), AA28 IO_L48N_6 (io), AA29 IO_L54P_6 (io), AA30 IO_L51N_6/VREF_6 (io), AB23 IO_L32P_6 (io), AB24 IO_L32N_6 (io), AB25 IO_L40P_6 (io), AB26 IO_L40N_6 (io), AB27 IO_L46P_6 (io), AB28 IO_L46N_6 (io), AB29 IO_L45N_6/VREF_6 (io), AB30 IO_L51P_6 (io), AC25 IO_L35P_6 (io), AC26 IO_L35N_6 (io), AC27 IO_L43P_6 (io), AC28 IO_L43N_6 (io), AC29 IO_L45P_6 (io), AD25 IO_L05P_6 (io), AD26 IO_L05N_6 (io), AD27 IO_L37P_6 (io), AD28 IO_L37N_6 (io), AD29 IO_L42P_6 (io), AD30 IO_L42N_6 (io), AE26 IO_L31N_6 (io), AE27 IO_L33P_6 (io), AE28 IO_L33N_6/VREF_6 (io), AE29 IO_L39P_6 (io), AE30 IO_L39N_6/VREF_6 (io), AF25 IO_L31P_6 (io), AF27 IO_L34P_6 (io), AF28 IO_L34N_6 (io), AF29 IO_L36P_6 (io), AF30 IO_L36N_6 (io), AG26 IO_L02N_6 (io), AG28 IO_L04N_6 (io), AG29 IO_L06P_6 (io), AG30 IO_L06N_6 (io), AH26 IO_L02P_6 (io), AH27 IO_L04P_6 (io), AH29 IO_L03P_6 (io), AH30 IO_L03N_6/VREF_6 (io), AJ28 IO_L01N_6/VRP_6 (io), AK28 IO_L01P_6/VRN_6 (io), T22 IO_L59N_6 (io), T23 IO_L86P_6 (io), T24 IO_L86N_6 (io), T25 IO_L89P_6 (io), T26 IO_L89N_6 (io), T27 IO_L88P_6 (io), T28 IO_L88N_6 (io), U22 IO_L59P_6 (io), U23 IO_L56P_6 (io), U24 IO_L56N_6 (io), U26 IO_L85P_6 (io), U27 IO_L85N_6 (io), U28 IO_L87P_6 (io), U29 IO_L87N_6/VREF_6 (io), U30 IO_L90N_6 (io), V23 IO_L53P_6 (io), V24 IO_L53N_6 (io), V25 IO_L55P_6 (io), V26 IO_L55N_6 (io), V27 IO_L58P_6 (io), V28 IO_L58N_6 (io), V29 IO_L60N_6 (io), V30 IO_L90P_6 (io), W23 IO_L47P_6 (io), W24 IO_L47N_6 (io), W25 IO_L50P_6 (io), W26 IO_L50N_6 (io), W27 IO_L52P_6 (io), W28 IO_L52N_6 (io), W29 IO_L60P_6 (io), W30 IO_L57N_6/VREF_6 (io), Y23 IO_L41P_6 (io), Y24 IO_L41N_6 (io), Y26 IO_L49P_6 (io), Y27 IO_L49N_6 (io), Y29 IO_L54N_6 (io), Y30 IO_L57P_6 (io)
part H pins: A28 IO_L01N_7/VRP_7 (io), B28 IO_L01P_7/VRN_7 (io), C26 IO_L03N_7 (io), C27 IO_L06N_7 (io), C29 IO_L04N_7/VREF_7 (io), C30 IO_L04P_7 (io), D26 IO_L03P_7 (io), D28 IO_L06P_7 (io), D29 IO_L31N_7 (io), D30 IO_L31P_7 (io), E27 IO_L33N_7 (io), E28 IO_L33P_7 (io), E29 IO_L34N_7/VREF_7 (io), E30 IO_L34P_7 (io), F27 IO_L36N_7 (io), F28 IO_L36P_7 (io), F29 IO_L37N_7 (io), F30 IO_L37P_7 (io), G25 IO_L02N_7 (io), G26 IO_L02P_7 (io), G27 IO_L39N_7 (io), G28 IO_L39P_7 (io), G29 IO_L40N_7/VREF_7 (io), G30 IO_L40P_7 (io), H25 IO_L32N_7 (io), H26 IO_L32P_7 (io), H27 IO_L42N_7 (io), H28 IO_L42P_7 (io), H29 IO_L43N_7 (io), J23 IO_L05N_7 (io), J24 IO_L05P_7 (io), J25 IO_L38N_7 (io), J26 IO_L38P_7 (io), J27 IO_L48N_7 (io), J28 IO_L48P_7 (io), J29 IO_L43P_7 (io), J30 IO_L46N_7/VREF_7 (io), K23 IO_L35N_7 (io), K24 IO_L35P_7 (io), K25 IO_L45N_7 (io), K26 IO_L45P_7 (io), K27 IO_L51N_7 (io), K28 IO_L51P_7 (io), K29 IO_L49N_7 (io), K30 IO_L46P_7 (io), L23 IO_L41N_7 (io), L24 IO_L41P_7 (io), L26 IO_L54N_7 (io), L27 IO_L54P_7 (io), L29 IO_L49P_7 (io), L30 IO_L52N_7/VREF_7 (io), M23 IO_L44N_7 (io), M24 IO_L44P_7 (io), M25 IO_L47N_7 (io), M26 IO_L47P_7 (io), M27 IO_L57N_7 (io), M28 IO_L57P_7 (io), M29 IO_L55N_7 (io), M30 IO_L52P_7 (io), N23 IO_L50N_7 (io), N24 IO_L50P_7 (io), N25 IO_L53N_7 (io), N26 IO_L53P_7 (io), N27 IO_L60N_7 (io), N28 IO_L60P_7 (io), N29 IO_L55P_7 (io), N30 IO_L58N_7/VREF_7 (io), P22 IO_L56N_7 (io), P23 IO_L59N_7 (io), P24 IO_L59P_7 (io), P26 IO_L87N_7 (io), P27 IO_L87P_7 (io), P28 IO_L85N_7 (io), P29 IO_L85P_7 (io), P30 IO_L58P_7 (io), R22 IO_L56P_7 (io), R23 IO_L86N_7 (io), R24 IO_L86P_7 (io), R25 IO_L89N_7 (io), R26 IO_L89P_7 (io), R27 IO_L90N_7 (io), R28 IO_L90P_7 (io), R29 IO_L88N_7/VREF_7 (io), T29 IO_L88P_7 (io)
part I pins: AC7 CCLK (io), AC8 DONE (io), AC23 M2 (in), AC24 M1 (in), AD7 PWRDWN_B (in), AD24 M0 (in), AH16 BREFCLKP (io), AJ16 BREFCLKN (io), D6 RSVD, D25 DXN, F5 TDO (out), F16 BREFCLKP (io), F22 BREFCLKN (io), F26 TDI (in), G7 TCK (in), G16 BREFCLKN (io), G22 BREFCLKP (io), G24 PROG_B (in), H7 VBATT (power), H8 TMS (in), H23 HSWAP_EN (in), H24 DXP
part J pins: A2 VCCAUX (power), A15 VCCAUX (power), A16 VCCAUX (power), A29 VCCAUX (power), AA9 VCCO_3 (power), AA10 VCCO_4 (power), AA11 VCCO_4 (power), AA12 VCCO_4 (power), AA13 VCCO_4 (power), AA14 VCCO_4 (power), AA15 VCCO_4 (power), AA16 VCCO_5 (power), AA17 VCCO_5 (power), AA18 VCCO_5 (power), AA19 VCCO_5 (power), AA20 VCCO_5 (power), AA21 VCCO_5 (power), AA22 VCCO_6 (power), AB9 VCCO_3 (power), AB10 VCCO_4 (power), AB11 VCCO_4 (power), AB12 VCCO_4 (power), AB13 VCCO_4 (power), AB18 VCCO_5 (power), AB19 VCCO_5 (power), AB20 VCCO_5 (power), AB21 VCCO_5 (power), AB22 VCCO_6 (power), AJ1 VCCAUX (power), AJ30 VCCAUX (power), AK2 VCCAUX (power), AK15 VCCAUX (power), AK16 VCCAUX (power), AK29 VCCAUX (power), B1 VCCAUX (power), B30 VCCAUX (power), J9 VCCO_2 (power), J10 VCCO_1 (power), J11 VCCO_1 (power), J12 VCCO_1 (power), J13 VCCO_1 (power), J18 VCCO_0 (power), J19 VCCO_0 (power), J20 VCCO_0 (power), J21 VCCO_0 (power), J22 VCCO_7 (power), K9 VCCO_2 (power), K10 VCCO_1 (power), K11 VCCO_1 (power), K12 VCCO_1 (power), K13 VCCO_1 (power), K14 VCCO_1 (power), K15 VCCO_1 (power), K16 VCCO_0 (power), K17 VCCO_0 (power), K18 VCCO_0 (power), K19 VCCO_0 (power), K20 VCCO_0 (power), K21 VCCO_0 (power), K22 VCCO_7 (power), L9 VCCO_2 (power), L10 VCCO_2 (power), L12 VCCINT (power), L13 VCCINT (power), L14 VCCINT (power), L15 VCCINT (power), L16 VCCINT (power), L17 VCCINT (power), L18 VCCINT (power), L19 VCCINT (power), L21 VCCO_7 (power), L22 VCCO_7 (power), M9 VCCO_2 (power), M10 VCCO_2 (power), M11 VCCINT (power), M20 VCCINT (power), M21 VCCO_7 (power), M22 VCCO_7 (power), N9 VCCO_2 (power), N10 VCCO_2 (power), N11 VCCINT (power), N20 VCCINT (power), N21 VCCO_7 (power), N22 VCCO_7 (power), P10 VCCO_2 (power), P11 VCCINT (power), P20 VCCINT (power), P21 VCCO_7 (power), R1 VCCAUX (power), R10 VCCO_2 (power), R11 VCCINT (power), R20 VCCINT (power), R21 VCCO_7 (power), R30 VCCAUX (power), T1 VCCAUX (power), T10 VCCO_3 (power), T11 VCCINT (power), T20 VCCINT (power), T21 VCCO_6 (power), T30 VCCAUX (power), U10 VCCO_3 (power), U11 VCCINT (power), U20 VCCINT (power), U21 VCCO_6 (power), V9 VCCO_3 (power), V10 VCCO_3 (power), V11 VCCINT (power), V20 VCCINT (power), V21 VCCO_6 (power), V22 VCCO_6 (power), W9 VCCO_3 (power), W10 VCCO_3 (power), W11 VCCINT (power), W20 VCCINT (power), W21 VCCO_6 (power), W22 VCCO_6 (power), Y9 VCCO_3 (power), Y10 VCCO_3 (power), Y12 VCCINT (power), Y13 VCCINT (power), Y14 VCCINT (power), Y15 VCCINT (power), Y16 VCCINT (power), Y17 VCCINT (power), Y18 VCCINT (power), Y19 VCCINT (power), Y21 VCCO_6 (power), Y22 VCCO_6 (power)
part K pins: A9 GND (power), A22 GND (power), AC1 GND (power), AC30 GND (power), AE6 GND (power), AE13 GND (power), AE18 GND (power), AE25 GND (power), AF5 GND (power), AF26 GND (power), AG4 GND (power), AG9 GND (power), AG12 GND (power), AG19 GND (power), AG22 GND (power), AG27 GND (power), AH3 GND (power), AH14 GND (power), AH17 GND (power), AH28 GND (power), AJ2 GND (power), AJ29 GND (power), AK9 GND (power), AK22 GND (power), B2 GND (power), B29 GND (power), C3 GND (power), C14 GND (power), C17 GND (power), C28 GND (power), D4 GND (power), D9 GND (power), D12 GND (power), D19 GND (power), D22 GND (power), D27 GND (power), E5 GND (power), E26 GND (power), F6 GND (power), F13 GND (power), F18 GND (power), F25 GND (power), H1 GND (power), H30 GND (power), L3 GND (power), L6 GND (power), L11 GND (power), L20 GND (power), L25 GND (power), L28 GND (power), M12 GND (power), M13 GND (power), M14 GND (power), M15 GND (power), M16 GND (power), M17 GND (power), M18 GND (power), M19 GND (power), N12 GND (power), N13 GND (power), N14 GND (power), N15 GND (power), N16 GND (power), N17 GND (power), N18 GND (power), N19 GND (power), P6 GND (power), P12 GND (power), P13 GND (power), P14 GND (power), P15 GND (power), P16 GND (power), P17 GND (power), P18 GND (power), P19 GND (power), P25 GND (power), R12 GND (power), R13 GND (power), R14 GND (power), R15 GND (power), R16 GND (power), R17 GND (power), R18 GND (power), R19 GND (power), T12 GND (power), T13 GND (power), T14 GND (power), T15 GND (power), T16 GND (power), T17 GND (power), T18 GND (power), T19 GND (power), U6 GND (power), U12 GND (power), U13 GND (power), U14 GND (power), U15 GND (power), U16 GND (power), U17 GND (power), U18 GND (power), U19 GND (power), U25 GND (power), V12 GND (power), V13 GND (power), V14 GND (power), V15 GND (power), V16 GND (power), V17 GND (power), V18 GND (power), V19 GND (power), W12 GND (power), W13 GND (power), W14 GND (power), W15 GND (power), W16 GND (power), W17 GND (power), W18 GND (power), W19 GND (power), Y3 GND (power), Y6 GND (power), Y11 GND (power), Y20 GND (power), Y25 GND (power), Y28 GND (power)
part L pins: A4 RXNPAD9 (in), A5 RXPPAD9 (in), A6 TXPPAD9, A7 TXNPAD9, A11 RXNPAD7 (in), A12 RXPPAD7 (in), A13 TXPPAD7, A14 TXNPAD7, A17 RXNPAD6 (in), A18 RXPPAD6 (in), A19 TXPPAD6, A20 TXNPAD6, A24 RXNPAD4 (in), A25 RXPPAD4 (in), A26 TXPPAD4, A27 TXNPAD4, AK4 RXNPAD16 (in), AK5 RXPPAD16 (in), AK6 TXPPAD16, AK7 TXNPAD16, AK11 RXNPAD18 (in), AK12 RXPPAD18 (in), AK13 TXPPAD18, AK14 TXNPAD18, AK17 RXNPAD19 (in), AK18 RXPPAD19 (in), AK19 TXPPAD19, AK20 TXNPAD19, AK24 RXNPAD21 (in), AK25 RXPPAD21 (in), AK26 TXPPAD21, AK27 TXNPAD21
part M pins: AJ4 AVCCAUXRX16 (power), AJ5 VTRXPAD16 (power), AJ6 AVCCAUXTX16 (power), AJ7 VTTXPAD16 (power), AJ11 AVCCAUXRX18 (power), AJ12 VTRXPAD18 (power), AJ13 AVCCAUXTX18 (power), AJ14 VTTXPAD18 (power), AJ17 AVCCAUXRX19 (power), AJ18 VTRXPAD19 (power), AJ19 AVCCAUXTX19 (power), AJ20 VTTXPAD19 (power), AJ24 AVCCAUXRX21 (power), AJ25 VTRXPAD21 (power), AJ26 AVCCAUXTX21 (power), AJ27 VTTXPAD21 (power), B4 AVCCAUXRX9 (power), B5 VTRXPAD9 (power), B6 AVCCAUXTX9 (power), B7 VTTXPAD9 (power), B11 AVCCAUXRX7 (power), B12 VTRXPAD7 (power), B13 AVCCAUXTX7 (power), B14 VTTXPAD7 (power), B17 AVCCAUXRX6 (power), B18 VTRXPAD6 (power), B19 AVCCAUXTX6 (power), B20 VTTXPAD6 (power), B24 AVCCAUXRX4 (power), B25 VTRXPAD4 (power), B26 AVCCAUXTX4 (power), B27 VTTXPAD4 (power)
part N pins: AH6 GNDA16 (power), AH12 GNDA18 (power), AH19 GNDA19 (power), AH25 GNDA21 (power), C6 GNDA9 (power), C12 GNDA7 (power), C19 GNDA6 (power), C25 GNDA4 (power)
part A text: BANK 0
part B text: BANK 1
part C text: BANK 2
part D text: BANK 3
part E text: BANK 4
part F text: BANK 5
part G text: BANK 6
part H text: BANK 7

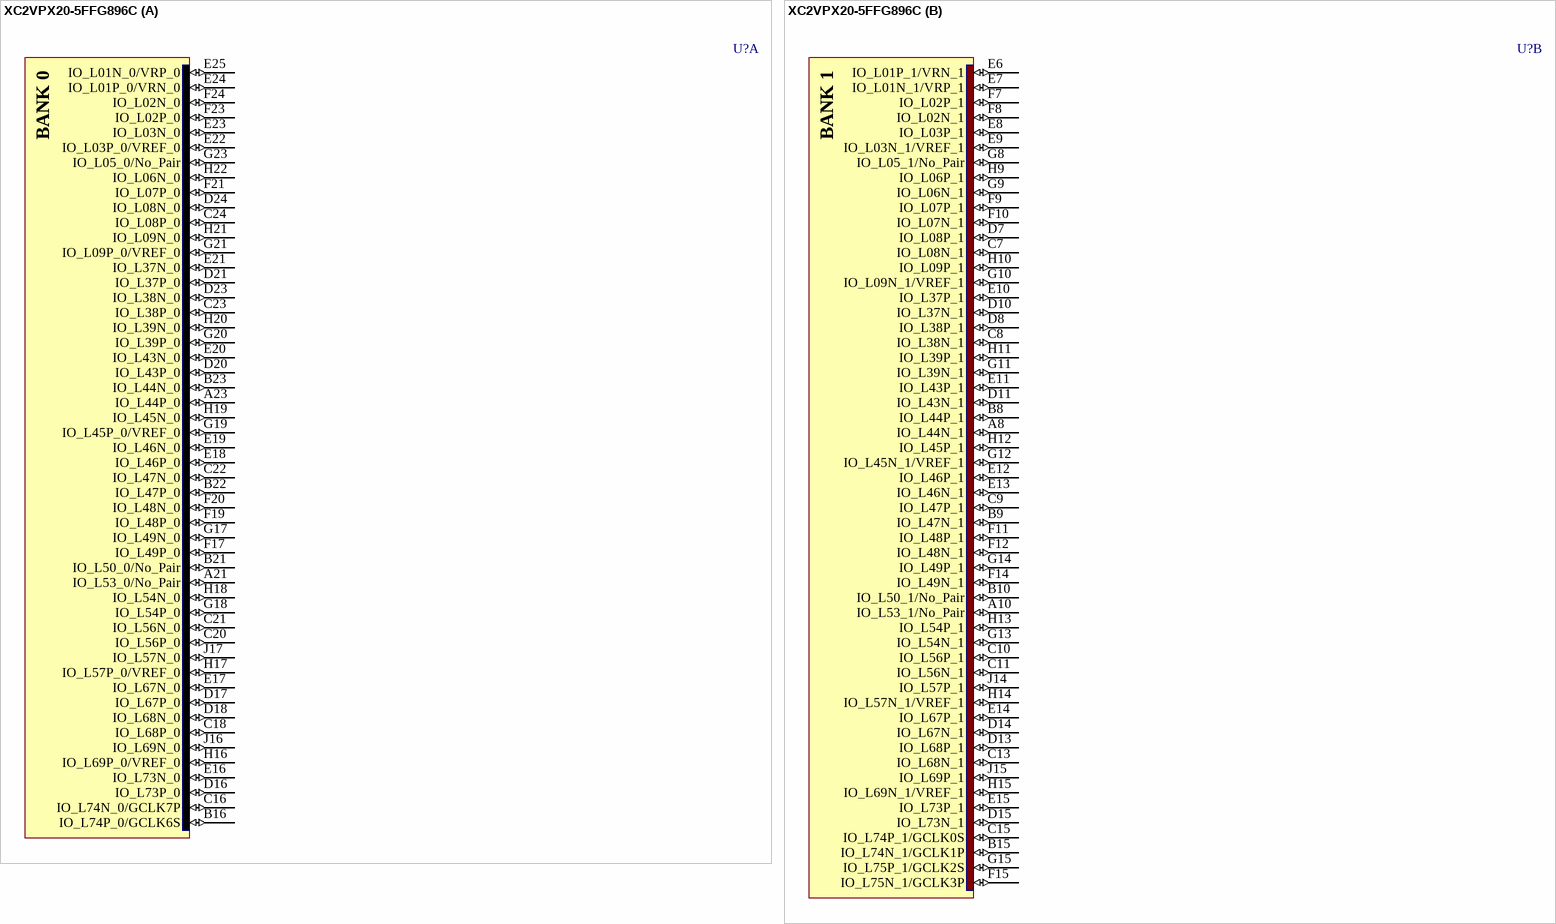
[diagram p12: symbol XC2VPX20-5FFG896C]

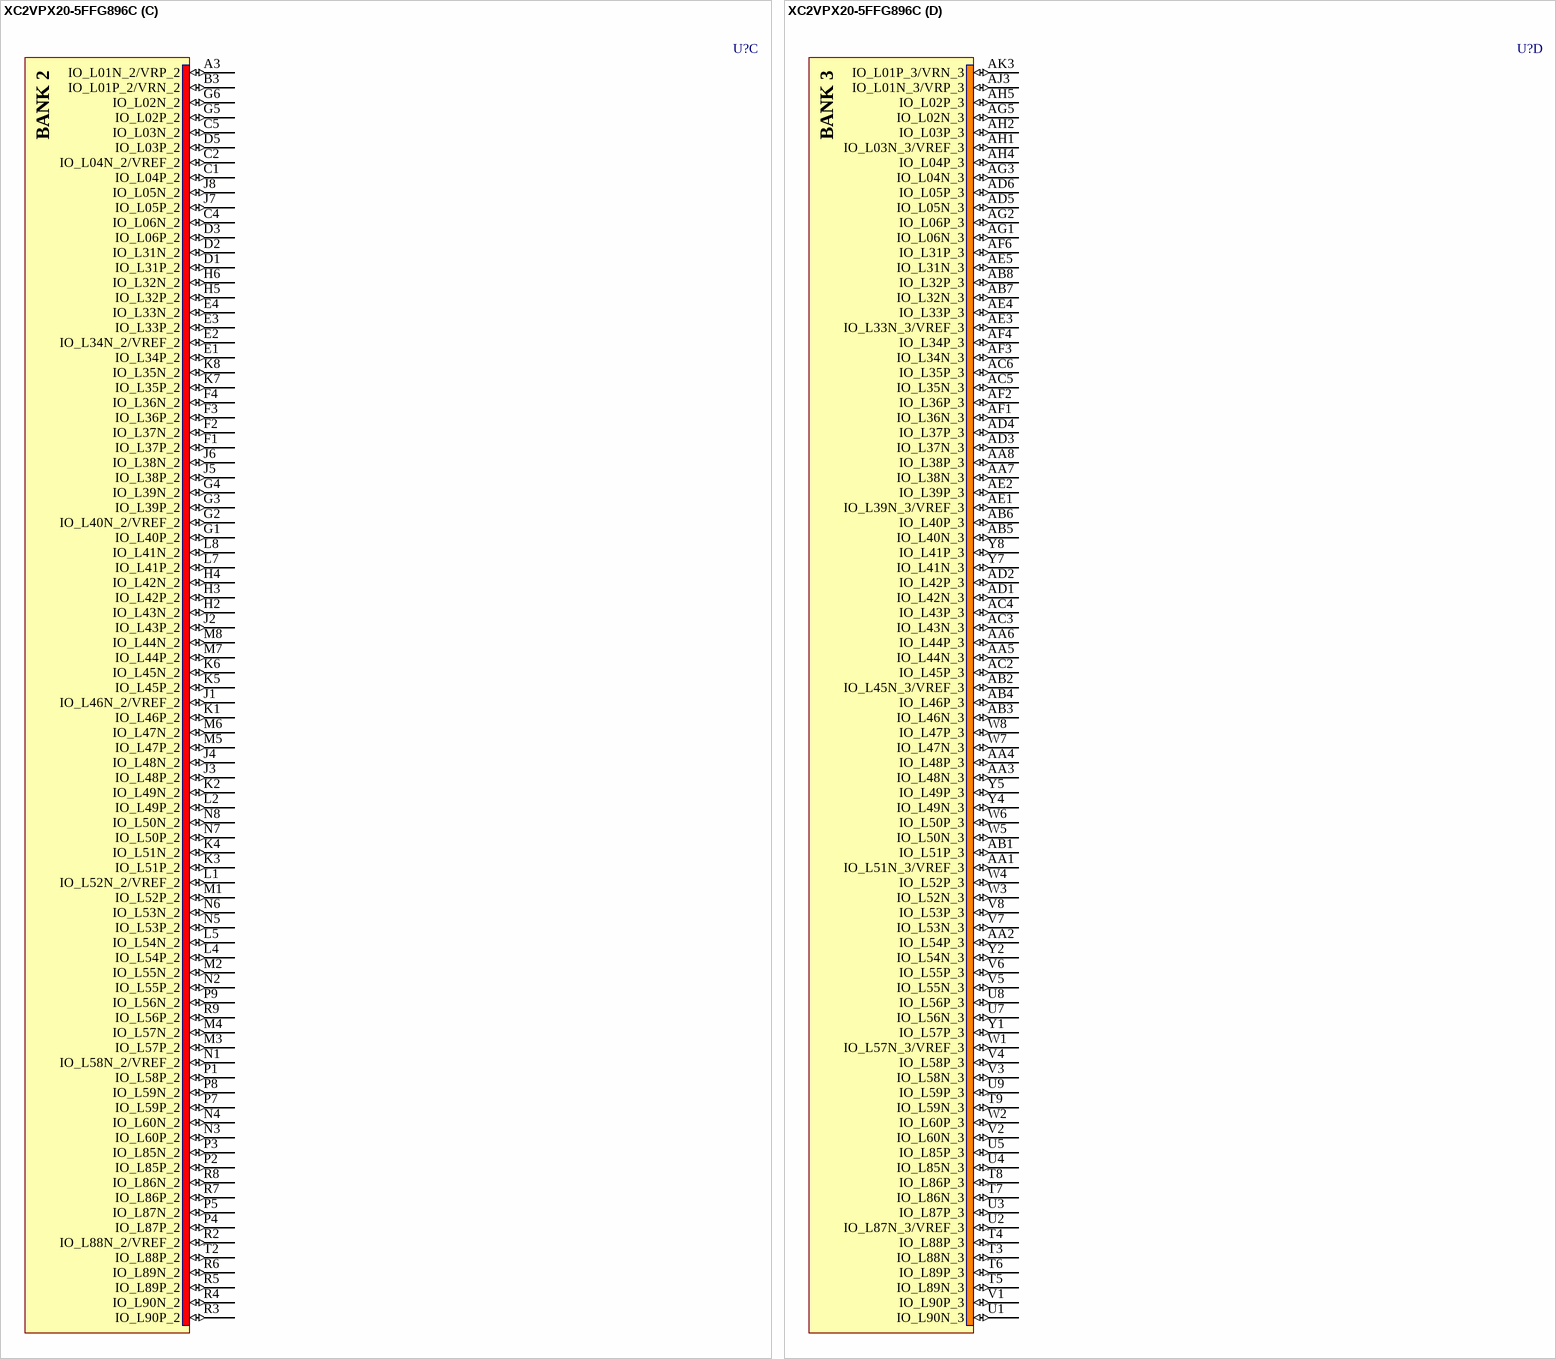
[diagram p13: symbol XC2VPX20-5FFG896C]

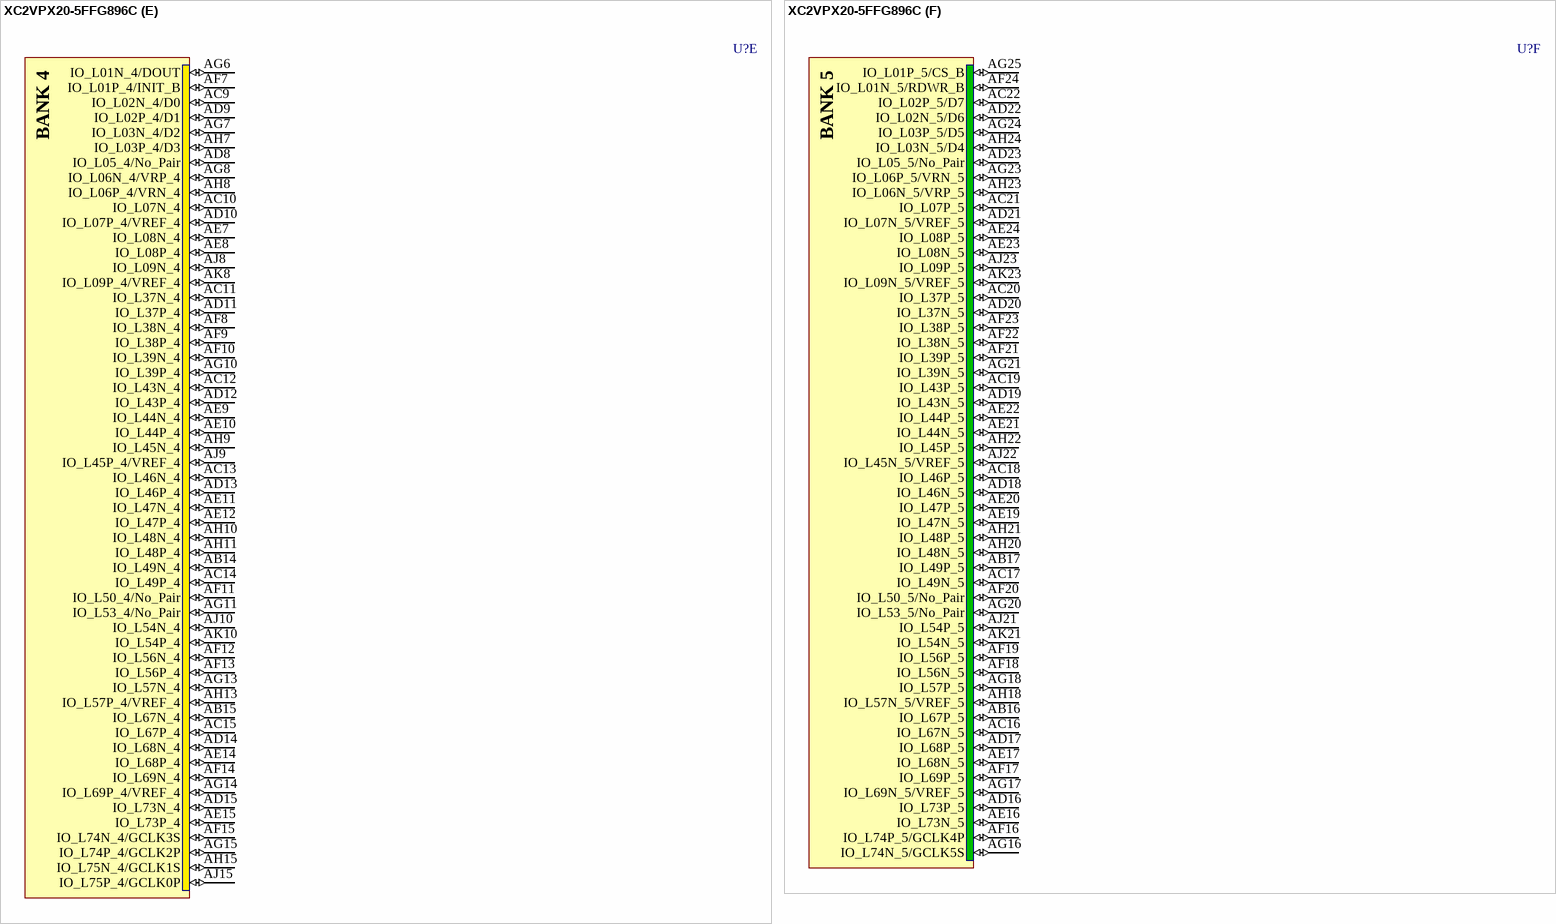
[diagram p14: symbol XC2VPX20-5FFG896C]

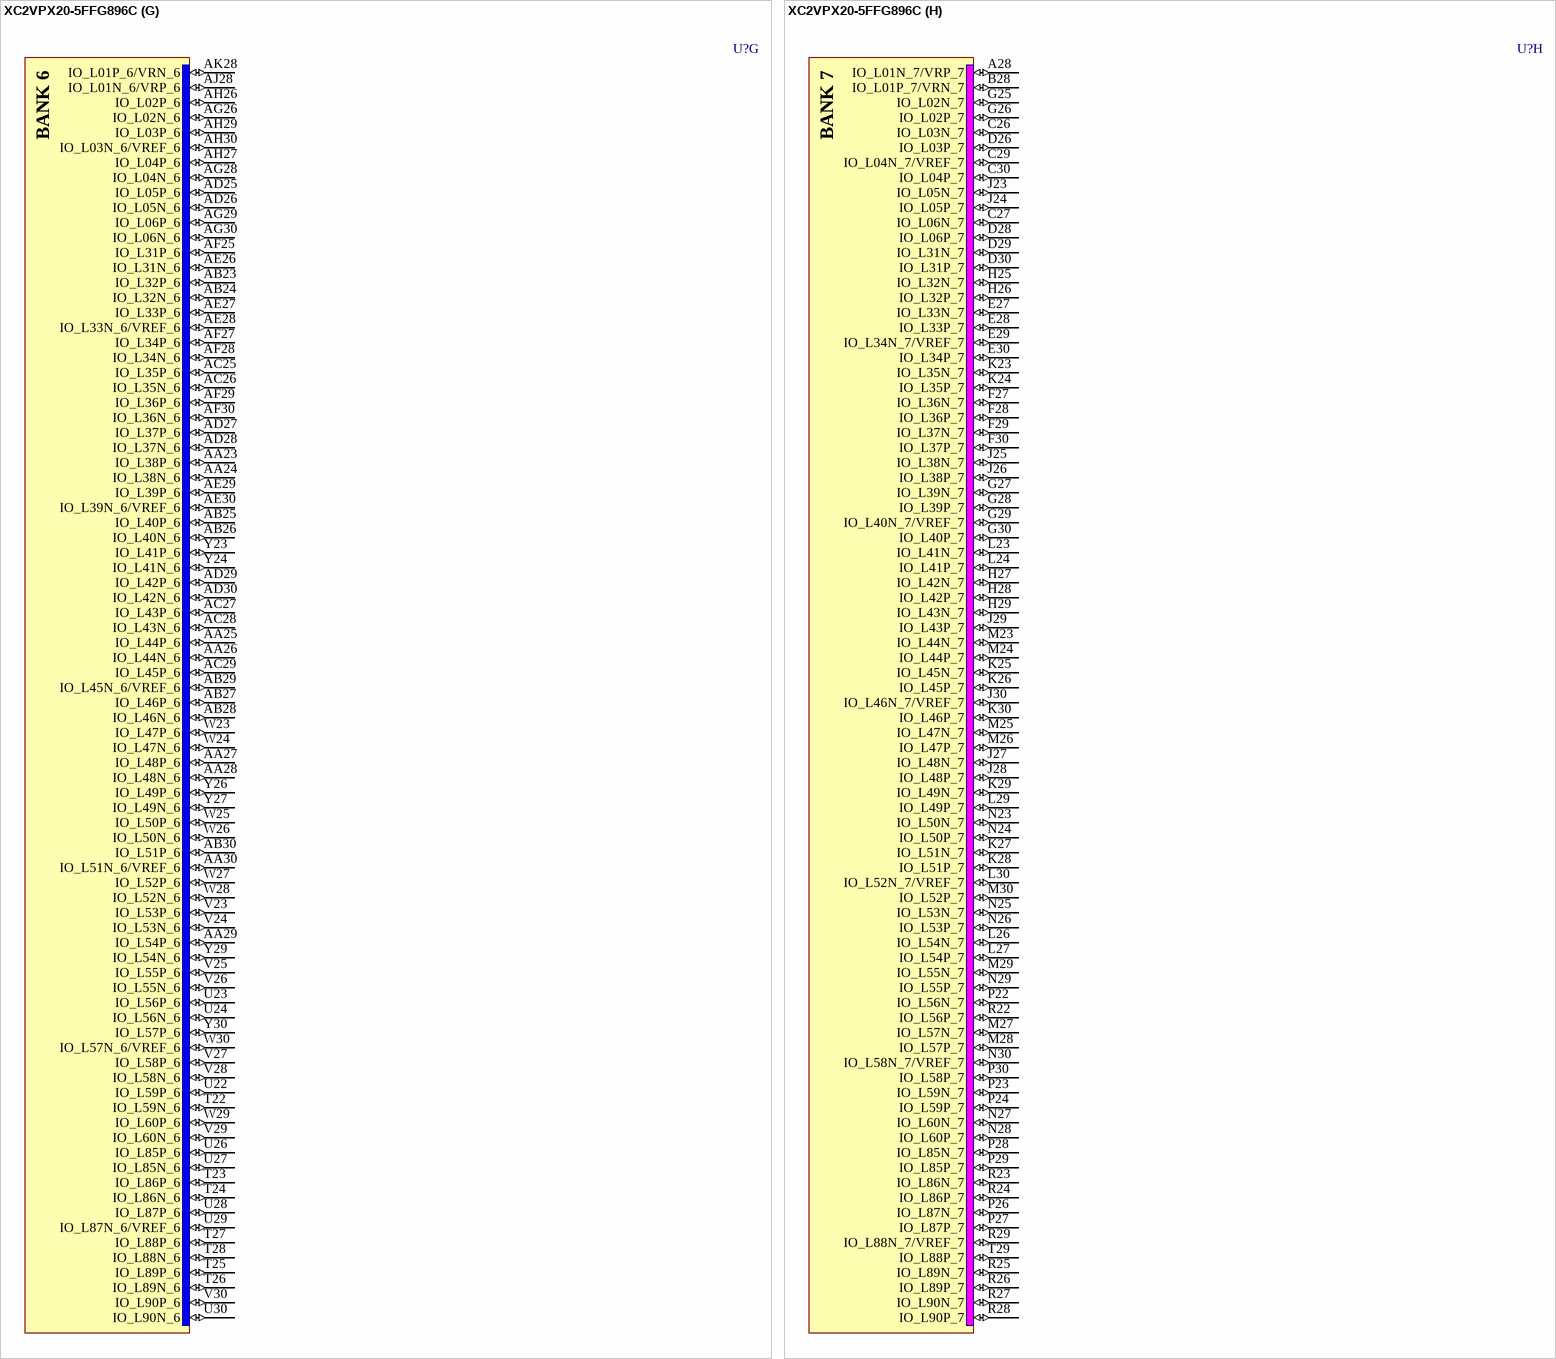
[diagram p15: symbol XC2VPX20-5FFG896C]

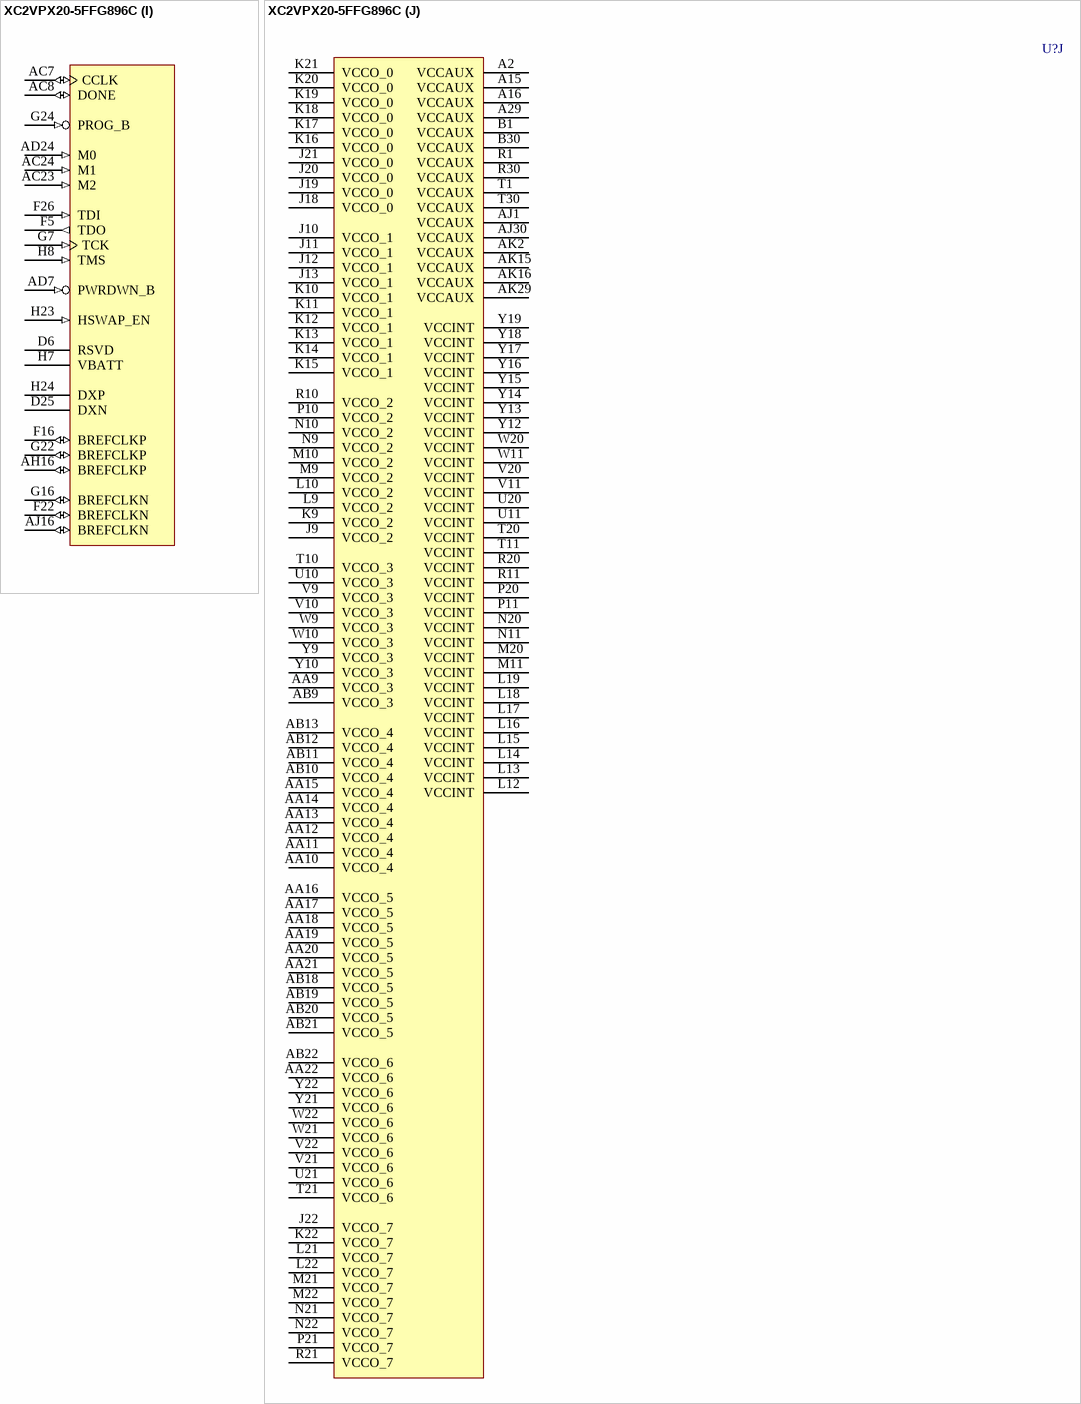
[diagram p16: symbol XC2VPX20-5FFG896C]

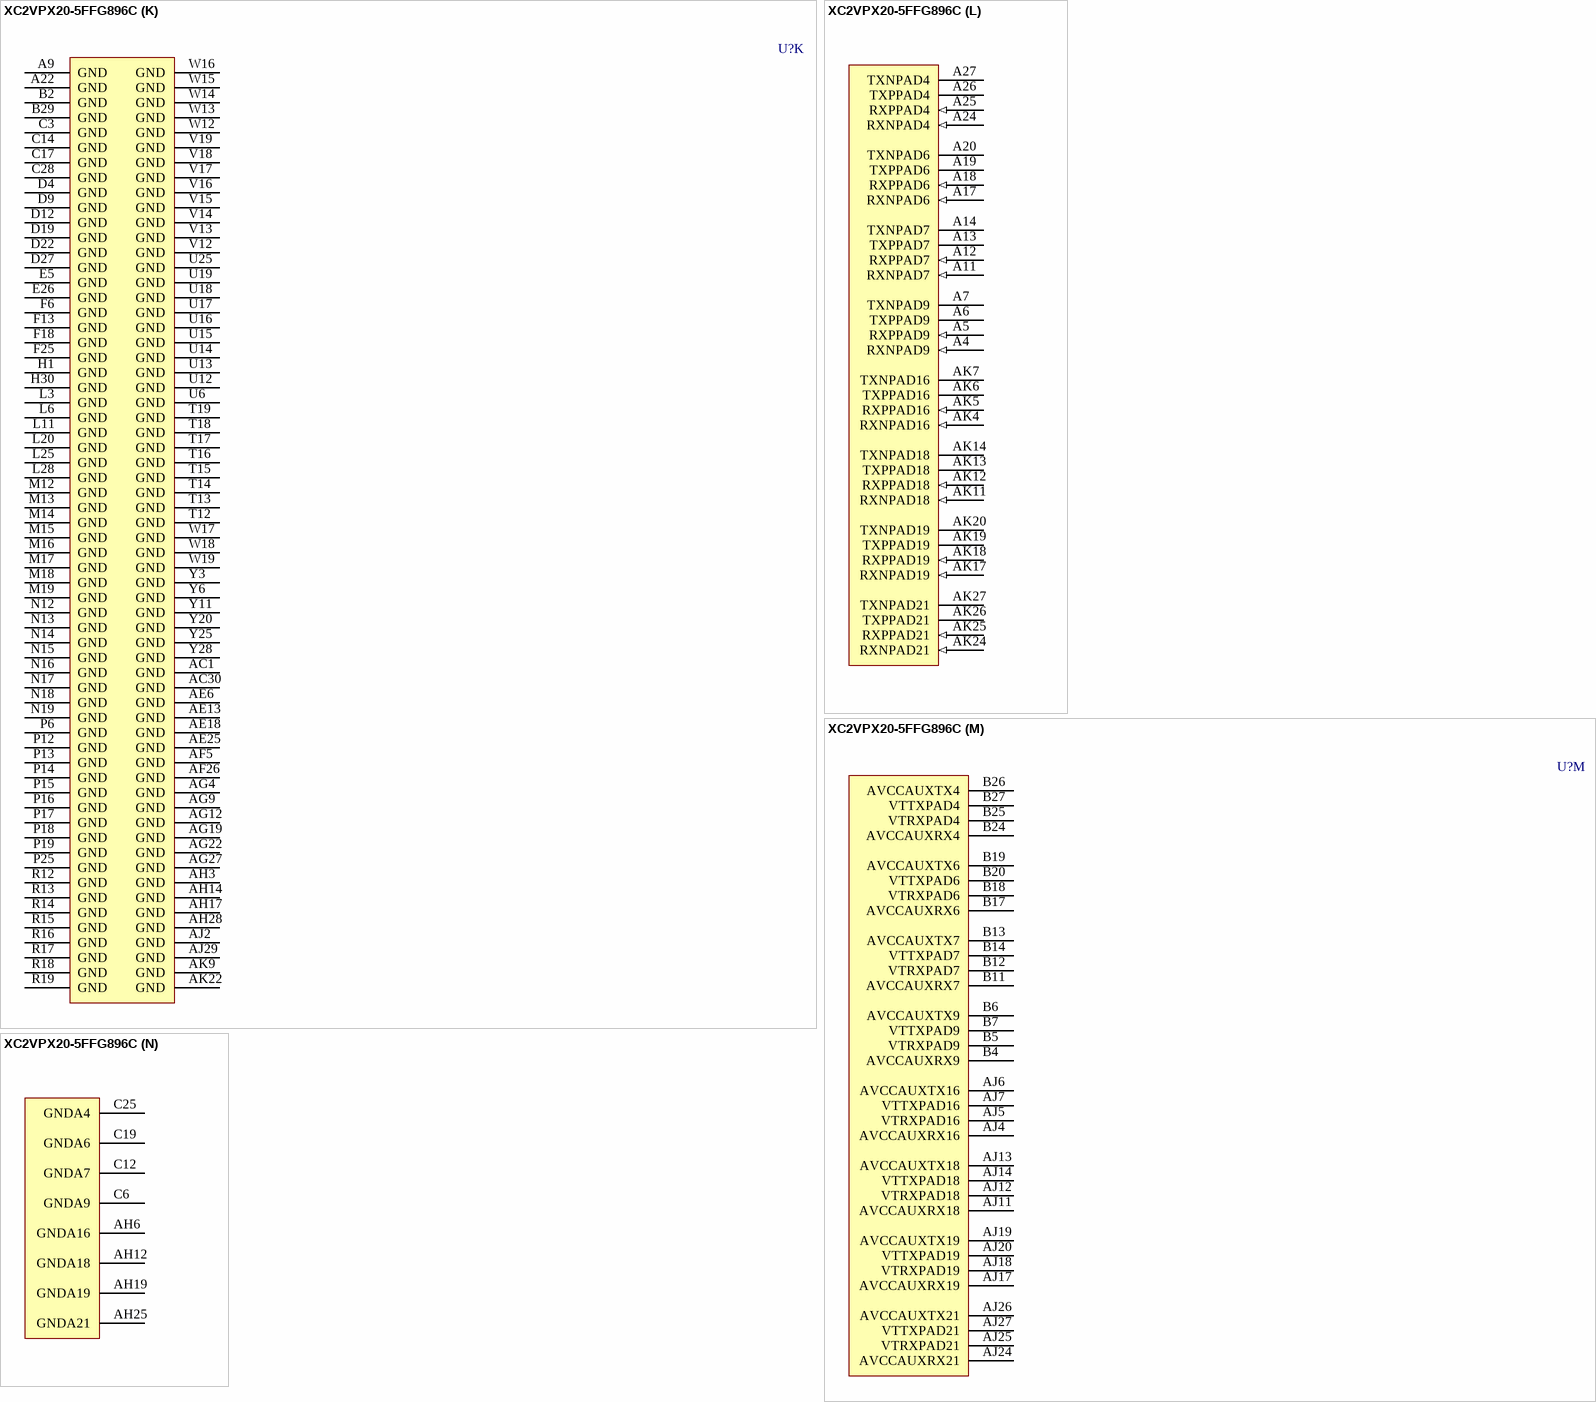
[diagram p17: symbol XC2VPX20-5FFG896C]